# Altium integrated library Microchip dsPIC33F.IntLib: 595 symbols (part 10 of 29)
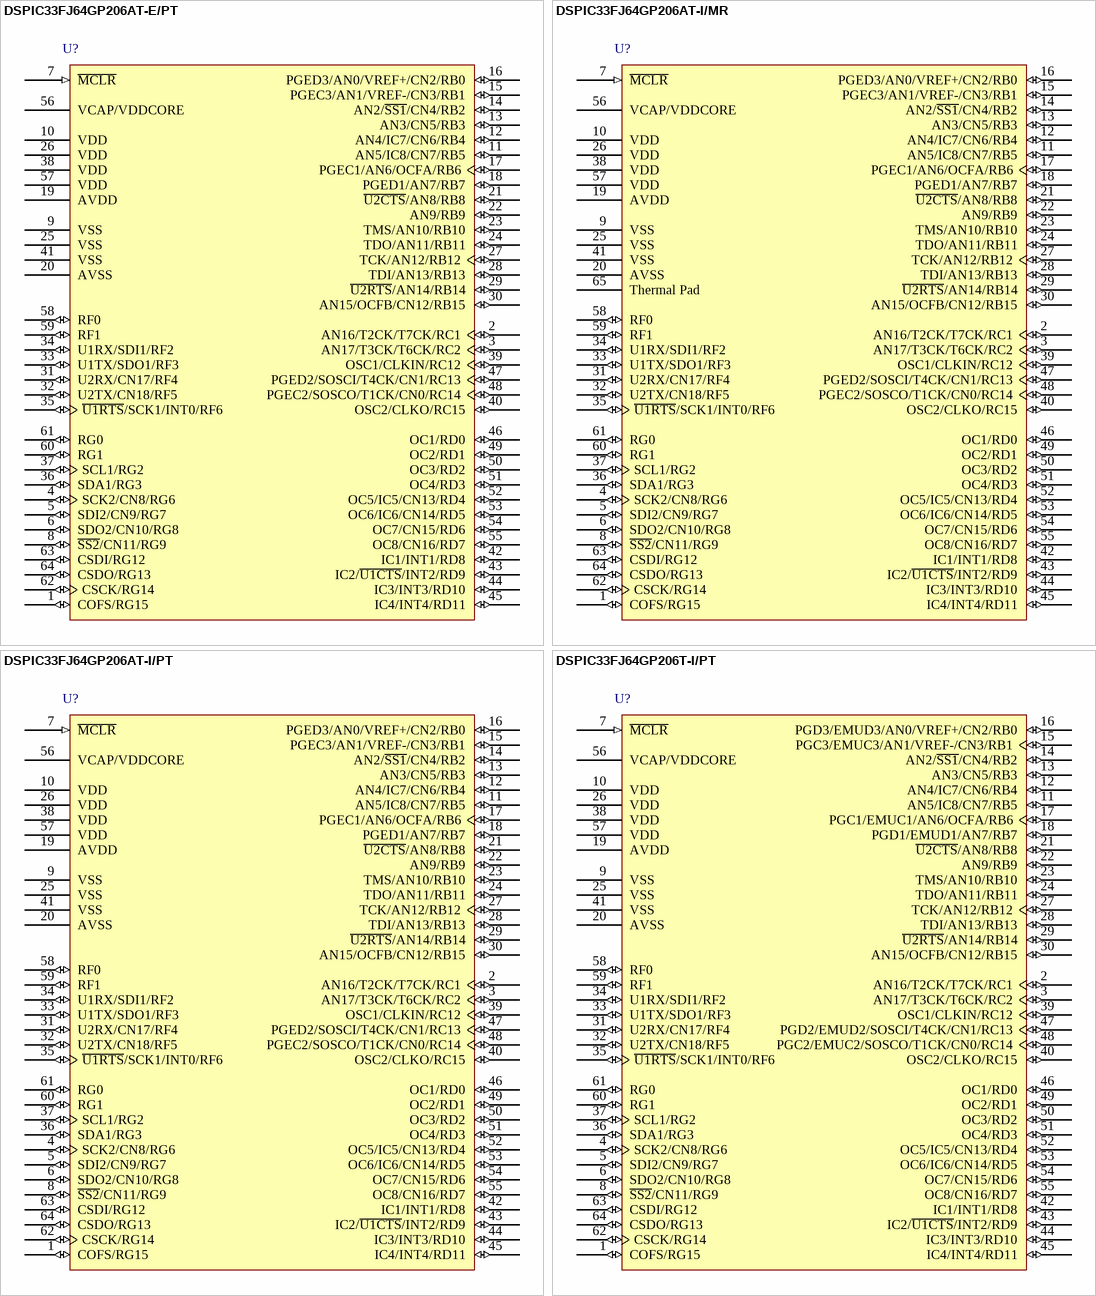
[diagram p127: symbols DSPIC33FJ64GP206AT-E/PT to DSPIC33FJ64GP206T-I/PT]

## DSPIC33FJ64GP206T-I/PT
designator U?
High-Performance 16-bit Digital Signal Controller, 64 KB Flash, 8 KB RAM, 64-Pin TQFP, Industrial Temperature, Tape and Reel; DatasheetVersion: revC, Mar-2009; PackageVersion: revBB, Aug-2009; PackageReference: TQFP-PT64; PackageDescription: 64-Lead Thin Plastic Quad Flat Pack (PT) - 10x10x1mm Body, 2.00mm [TQFP]; Code_JEDEC: MS-026; ComponentLink1Description: Manufacturer URL; ComponentLink1URL: http://www.microchip.com/; ComponentLink2Description: Datasheet; ComponentLink2URL: http://ww1.microchip.com/downloads/en/DeviceDoc/70286C.pdf; ComponentLink3Description: Package Specification; ComponentLink3URL: http://www.microchip.com/stellent/groups/techpub_sg/documents/packagingspec/en012702.pdf
footprint TQFP-PT64_N (Thin QFP, 64-Leads, Body 10x10mm, Pitch 0.5mm, IPC Medium Density)
footprint TQFP-PT64_L (Thin QFP, 64-Leads, Body 10x10mm, Pitch 0.5mm, IPC High Density)
footprint TQFP-PT64_M (Thin QFP, 64-Leads, Body 10x10mm, Pitch 0.5mm, IPC Low Density)
pins: 1 COFS/RG15 (io), 2 AN16/T2CK/T7CK/RC1 (io), 3 AN17/T3CK/T6CK/RC2 (io), 4 SCK2/CN8/RG6 (io), 5 SDI2/CN9/RG7 (io), 6 SDO2/CN10/RG8 (io), 7 ~{MCLR} (in), 8 ~{SS2}/CN11/RG9 (io), 9 VSS (power), 10 VDD (power), 11 AN5/IC8/CN7/RB5 (io), 12 AN4/IC7/CN6/RB4 (io), 13 AN3/CN5/RB3 (io), 14 AN2/~{SS1}/CN4/RB2 (io), 15 PGC3/EMUC3/AN1/VREF-/CN3/RB1 (io), 16 PGD3/EMUD3/AN0/VREF+/CN2/RB0 (io), 17 PGC1/EMUC1/AN6/OCFA/RB6 (io), 18 PGD1/EMUD1/AN7/RB7 (io), 19 AVDD (power), 20 AVSS (power), 21 ~{U2CTS}/AN8/RB8 (io), 22 AN9/RB9 (io), 23 TMS/AN10/RB10 (io), 24 TDO/AN11/RB11 (io), 25 VSS (power), 26 VDD (power), 27 TCK/AN12/RB12 (io), 28 TDI/AN13/RB13 (io), 29 ~{U2RTS}/AN14/RB14 (io), 30 AN15/OCFB/CN12/RB15 (io), 31 U2RX/CN17/RF4 (io), 32 U2TX/CN18/RF5 (io), 33 U1TX/SDO1/RF3 (io), 34 U1RX/SDI1/RF2 (io), 35 ~{U1RTS}/SCK1/INT0/RF6 (io), 36 SDA1/RG3 (io), 37 SCL1/RG2 (io), 38 VDD (power), 39 OSC1/CLKIN/RC12 (io), 40 OSC2/CLKO/RC15 (io), 41 VSS (power), 42 IC1/INT1/RD8 (io), 43 IC2/~{U1CTS}/INT2/RD9 (io), 44 IC3/INT3/RD10 (io), 45 IC4/INT4/RD11 (io), 46 OC1/RD0 (io), 47 PGD2/EMUD2/SOSCI/T4CK/CN1/RC13 (io), 48 PGC2/EMUC2/SOSCO/T1CK/CN0/RC14 (io), 49 OC2/RD1 (io), 50 OC3/RD2 (io), 51 OC4/RD3 (io), 52 OC5/IC5/CN13/RD4 (io), 53 OC6/IC6/CN14/RD5 (io), 54 OC7/CN15/RD6 (io), 55 OC8/CN16/RD7 (io), 56 VCAP/VDDCORE (power), 57 VDD (power), 58 RF0 (io), 59 RF1 (io), 60 RG1 (io), 61 RG0 (io), 62 CSCK/RG14 (io), 63 CSDI/RG12 (io), 64 CSDO/RG13 (io)

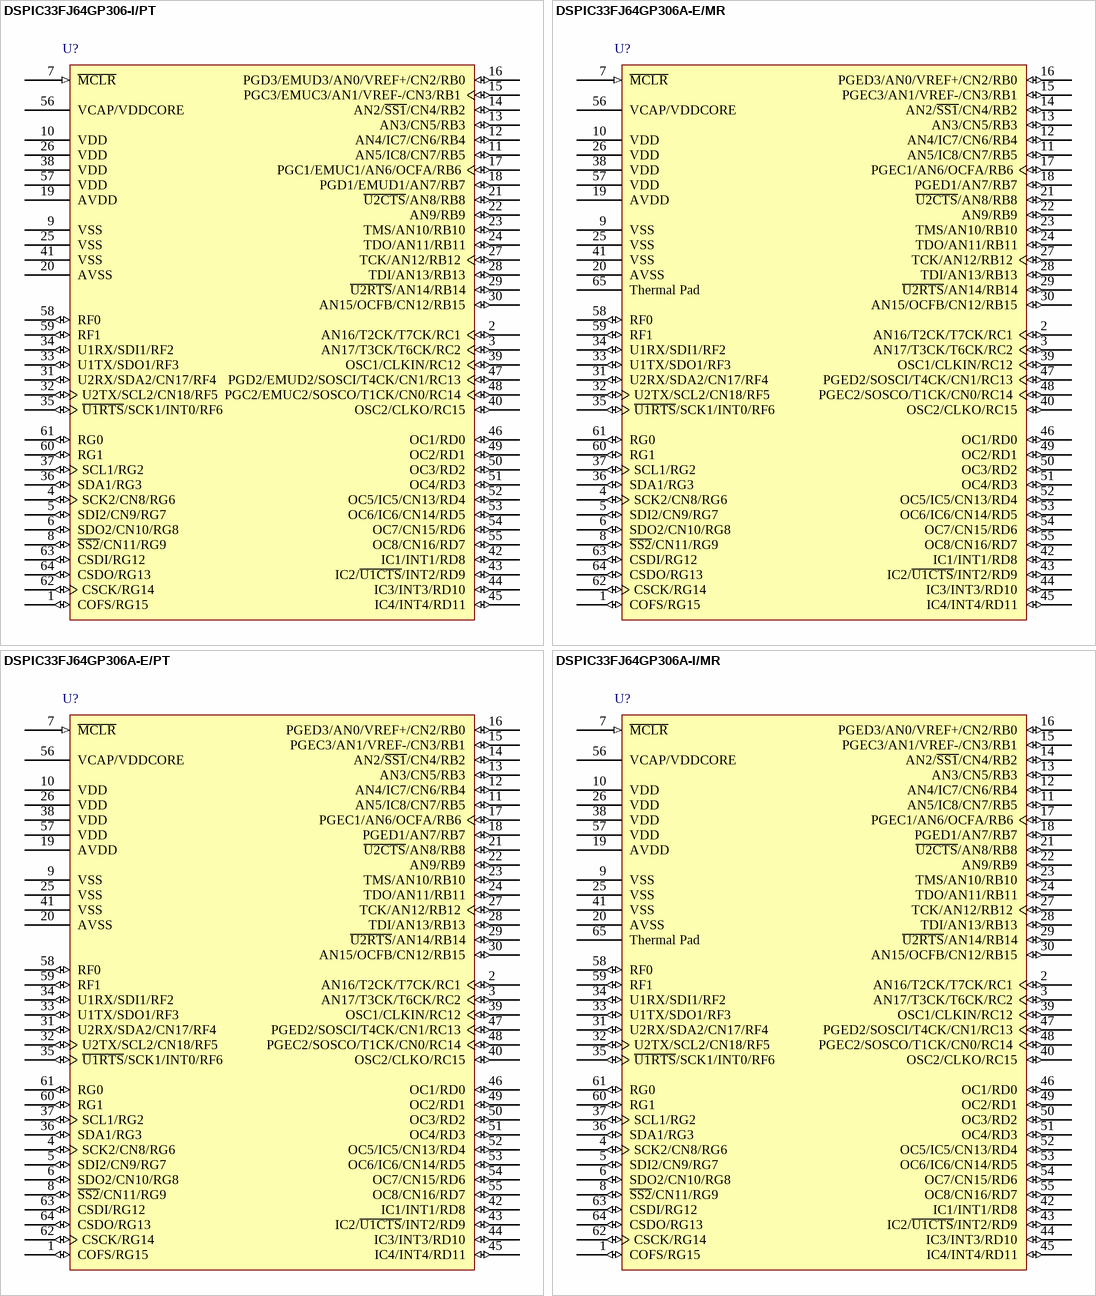
[diagram p30: symbols DSPIC33FJ64GP306-I/PT to DSPIC33FJ64GP306A-I/MR]

## DSPIC33FJ64GP306-I/PT
designator U?
High-Performance 16-bit Digital Signal Controller, 64 KB Flash, 16 KB RAM, 64-Pin TQFP, Industrial Temperature; DatasheetVersion: revC, Mar-2009; PackageVersion: revBB, Aug-2009; PackageReference: TQFP-PT64; PackageDescription: 64-Lead Thin Plastic Quad Flat Pack (PT) - 10x10x1mm Body, 2.00mm [TQFP]; Code_JEDEC: MS-026; ComponentLink1Description: Manufacturer URL; ComponentLink1URL: http://www.microchip.com/; ComponentLink2Description: Datasheet; ComponentLink2URL: http://ww1.microchip.com/downloads/en/DeviceDoc/70286C.pdf; ComponentLink3Description: Package Specification; ComponentLink3URL: http://www.microchip.com/stellent/groups/techpub_sg/documents/packagingspec/en012702.pdf
footprint TQFP-PT64_N (Thin QFP, 64-Leads, Body 10x10mm, Pitch 0.5mm, IPC Medium Density)
footprint TQFP-PT64_L (Thin QFP, 64-Leads, Body 10x10mm, Pitch 0.5mm, IPC High Density)
footprint TQFP-PT64_M (Thin QFP, 64-Leads, Body 10x10mm, Pitch 0.5mm, IPC Low Density)
pins: 1 COFS/RG15 (io), 2 AN16/T2CK/T7CK/RC1 (io), 3 AN17/T3CK/T6CK/RC2 (io), 4 SCK2/CN8/RG6 (io), 5 SDI2/CN9/RG7 (io), 6 SDO2/CN10/RG8 (io), 7 ~{MCLR} (in), 8 ~{SS2}/CN11/RG9 (io), 9 VSS (power), 10 VDD (power), 11 AN5/IC8/CN7/RB5 (io), 12 AN4/IC7/CN6/RB4 (io), 13 AN3/CN5/RB3 (io), 14 AN2/~{SS1}/CN4/RB2 (io), 15 PGC3/EMUC3/AN1/VREF-/CN3/RB1 (io), 16 PGD3/EMUD3/AN0/VREF+/CN2/RB0 (io), 17 PGC1/EMUC1/AN6/OCFA/RB6 (io), 18 PGD1/EMUD1/AN7/RB7 (io), 19 AVDD (power), 20 AVSS (power), 21 ~{U2CTS}/AN8/RB8 (io), 22 AN9/RB9 (io), 23 TMS/AN10/RB10 (io), 24 TDO/AN11/RB11 (io), 25 VSS (power), 26 VDD (power), 27 TCK/AN12/RB12 (io), 28 TDI/AN13/RB13 (io), 29 ~{U2RTS}/AN14/RB14 (io), 30 AN15/OCFB/CN12/RB15 (io), 31 U2RX/SDA2/CN17/RF4 (io), 32 U2TX/SCL2/CN18/RF5 (io), 33 U1TX/SDO1/RF3 (io), 34 U1RX/SDI1/RF2 (io), 35 ~{U1RTS}/SCK1/INT0/RF6 (io), 36 SDA1/RG3 (io), 37 SCL1/RG2 (io), 38 VDD (power), 39 OSC1/CLKIN/RC12 (io), 40 OSC2/CLKO/RC15 (io), 41 VSS (power), 42 IC1/INT1/RD8 (io), 43 IC2/~{U1CTS}/INT2/RD9 (io), 44 IC3/INT3/RD10 (io), 45 IC4/INT4/RD11 (io), 46 OC1/RD0 (io), 47 PGD2/EMUD2/SOSCI/T4CK/CN1/RC13 (io), 48 PGC2/EMUC2/SOSCO/T1CK/CN0/RC14 (io), 49 OC2/RD1 (io), 50 OC3/RD2 (io), 51 OC4/RD3 (io), 52 OC5/IC5/CN13/RD4 (io), 53 OC6/IC6/CN14/RD5 (io), 54 OC7/CN15/RD6 (io), 55 OC8/CN16/RD7 (io), 56 VCAP/VDDCORE (power), 57 VDD (power), 58 RF0 (io), 59 RF1 (io), 60 RG1 (io), 61 RG0 (io), 62 CSCK/RG14 (io), 63 CSDI/RG12 (io), 64 CSDO/RG13 (io)

## DSPIC33FJ64GP306A-E/MR
designator U?
High-Performance 16-bit Digital Signal Controller, 64 KB Flash, 16 KB RAM , 64-Pin QFN, Extended High Temperature; DatasheetVersion: revB, Apr-2009; PackageVersion: revBB, Aug-2009; PackageReference: QFN-MR64; PackageDescription: 64-Lead Plastic Quad Flat, No Lead Package (MR) - 9x9x0.9 mm Body [QFN]; ComponentLink1Description: Manufacturer URL; ComponentLink1URL: http://www.microchip.com/; ComponentLink2Description: Datasheet; ComponentLink2URL: http://ww1.microchip.com/downloads/en/DeviceDoc/70593B.pdf; ComponentLink3Description: Package Specification; ComponentLink3URL: http://www.microchip.com/stellent/groups/techpub_sg/documents/packagingspec/en012702.pdf
footprint QFN-MR64_N (QFN, 64-Leads, Body 9x9mm, Pitch 0.5mm, Thermal Pad 7.5x7.5mm, IPC Medium Density)
footprint QFN-MR64_L (QFN, 64-Leads, Body 9x9mm, Pitch 0.5mm, Thermal Pad 7.5x7.5mm, IPC High Density)
footprint QFN-MR64_M (QFN, 64-Leads, Body 9x9mm, Pitch 0.5mm, Thermal Pad 7.5x7.5mm, IPC Low Density)
pins: 1 COFS/RG15 (io), 2 AN16/T2CK/T7CK/RC1 (io), 3 AN17/T3CK/T6CK/RC2 (io), 4 SCK2/CN8/RG6 (io), 5 SDI2/CN9/RG7 (io), 6 SDO2/CN10/RG8 (io), 7 ~{MCLR} (in), 8 ~{SS2}/CN11/RG9 (io), 9 VSS (power), 10 VDD (power), 11 AN5/IC8/CN7/RB5 (io), 12 AN4/IC7/CN6/RB4 (io), 13 AN3/CN5/RB3 (io), 14 AN2/~{SS1}/CN4/RB2 (io), 15 PGEC3/AN1/VREF-/CN3/RB1 (io), 16 PGED3/AN0/VREF+/CN2/RB0 (io), 17 PGEC1/AN6/OCFA/RB6 (io), 18 PGED1/AN7/RB7 (io), 19 AVDD (power), 20 AVSS (power), 21 ~{U2CTS}/AN8/RB8 (io), 22 AN9/RB9 (io), 23 TMS/AN10/RB10 (io), 24 TDO/AN11/RB11 (io), 25 VSS (power), 26 VDD (power), 27 TCK/AN12/RB12 (io), 28 TDI/AN13/RB13 (io), 29 ~{U2RTS}/AN14/RB14 (io), 30 AN15/OCFB/CN12/RB15 (io), 31 U2RX/SDA2/CN17/RF4 (io), 32 U2TX/SCL2/CN18/RF5 (io), 33 U1TX/SDO1/RF3 (io), 34 U1RX/SDI1/RF2 (io), 35 ~{U1RTS}/SCK1/INT0/RF6 (io), 36 SDA1/RG3 (io), 37 SCL1/RG2 (io), 38 VDD (power), 39 OSC1/CLKIN/RC12 (io), 40 OSC2/CLKO/RC15 (io), 41 VSS (power), 42 IC1/INT1/RD8 (io), 43 IC2/~{U1CTS}/INT2/RD9 (io), 44 IC3/INT3/RD10 (io), 45 IC4/INT4/RD11 (io), 46 OC1/RD0 (io), 47 PGED2/SOSCI/T4CK/CN1/RC13 (io), 48 PGEC2/SOSCO/T1CK/CN0/RC14 (io), 49 OC2/RD1 (io), 50 OC3/RD2 (io), 51 OC4/RD3 (io), 52 OC5/IC5/CN13/RD4 (io), 53 OC6/IC6/CN14/RD5 (io), 54 OC7/CN15/RD6 (io), 55 OC8/CN16/RD7 (io), 56 VCAP/VDDCORE (power), 57 VDD (power), 58 RF0 (io), 59 RF1 (io), 60 RG1 (io), 61 RG0 (io), 62 CSCK/RG14 (io), 63 CSDI/RG12 (io), 64 CSDO/RG13 (io), 65 Thermal Pad

## DSPIC33FJ64GP306A-E/PT
designator U?
High-Performance 16-bit Digital Signal Controller, 64 KB Flash, 16 KB RAM , 64-Pin TQFP, Extended High Temperature; DatasheetVersion: revB, Apr-2009; PackageVersion: revBB, Aug-2009; PackageReference: TQFP-PT64; PackageDescription: 64-Lead Thin Plastic Quad Flat Pack (PT) - 10x10x1mm Body, 2.00mm [TQFP]; Code_JEDEC: MS-026; ComponentLink1Description: Manufacturer URL; ComponentLink1URL: http://www.microchip.com/; ComponentLink2Description: Datasheet; ComponentLink2URL: http://ww1.microchip.com/downloads/en/DeviceDoc/70593B.pdf; ComponentLink3Description: Package Specification; ComponentLink3URL: http://www.microchip.com/stellent/groups/techpub_sg/documents/packagingspec/en012702.pdf
footprint TQFP-PT64_N (Thin QFP, 64-Leads, Body 10x10mm, Pitch 0.5mm, IPC Medium Density)
footprint TQFP-PT64_L (Thin QFP, 64-Leads, Body 10x10mm, Pitch 0.5mm, IPC High Density)
footprint TQFP-PT64_M (Thin QFP, 64-Leads, Body 10x10mm, Pitch 0.5mm, IPC Low Density)
pins: 1 COFS/RG15 (io), 2 AN16/T2CK/T7CK/RC1 (io), 3 AN17/T3CK/T6CK/RC2 (io), 4 SCK2/CN8/RG6 (io), 5 SDI2/CN9/RG7 (io), 6 SDO2/CN10/RG8 (io), 7 ~{MCLR} (in), 8 ~{SS2}/CN11/RG9 (io), 9 VSS (power), 10 VDD (power), 11 AN5/IC8/CN7/RB5 (io), 12 AN4/IC7/CN6/RB4 (io), 13 AN3/CN5/RB3 (io), 14 AN2/~{SS1}/CN4/RB2 (io), 15 PGEC3/AN1/VREF-/CN3/RB1 (io), 16 PGED3/AN0/VREF+/CN2/RB0 (io), 17 PGEC1/AN6/OCFA/RB6 (io), 18 PGED1/AN7/RB7 (io), 19 AVDD (power), 20 AVSS (power), 21 ~{U2CTS}/AN8/RB8 (io), 22 AN9/RB9 (io), 23 TMS/AN10/RB10 (io), 24 TDO/AN11/RB11 (io), 25 VSS (power), 26 VDD (power), 27 TCK/AN12/RB12 (io), 28 TDI/AN13/RB13 (io), 29 ~{U2RTS}/AN14/RB14 (io), 30 AN15/OCFB/CN12/RB15 (io), 31 U2RX/SDA2/CN17/RF4 (io), 32 U2TX/SCL2/CN18/RF5 (io), 33 U1TX/SDO1/RF3 (io), 34 U1RX/SDI1/RF2 (io), 35 ~{U1RTS}/SCK1/INT0/RF6 (io), 36 SDA1/RG3 (io), 37 SCL1/RG2 (io), 38 VDD (power), 39 OSC1/CLKIN/RC12 (io), 40 OSC2/CLKO/RC15 (io), 41 VSS (power), 42 IC1/INT1/RD8 (io), 43 IC2/~{U1CTS}/INT2/RD9 (io), 44 IC3/INT3/RD10 (io), 45 IC4/INT4/RD11 (io), 46 OC1/RD0 (io), 47 PGED2/SOSCI/T4CK/CN1/RC13 (io), 48 PGEC2/SOSCO/T1CK/CN0/RC14 (io), 49 OC2/RD1 (io), 50 OC3/RD2 (io), 51 OC4/RD3 (io), 52 OC5/IC5/CN13/RD4 (io), 53 OC6/IC6/CN14/RD5 (io), 54 OC7/CN15/RD6 (io), 55 OC8/CN16/RD7 (io), 56 VCAP/VDDCORE (power), 57 VDD (power), 58 RF0 (io), 59 RF1 (io), 60 RG1 (io), 61 RG0 (io), 62 CSCK/RG14 (io), 63 CSDI/RG12 (io), 64 CSDO/RG13 (io)

## DSPIC33FJ64GP306A-I/MR
designator U?
High-Performance 16-bit Digital Signal Controller, 64 KB Flash, 16 KB RAM , 64-Pin QFN, Industrial Temperature; DatasheetVersion: revB, Apr-2009; PackageVersion: revBB, Aug-2009; PackageReference: QFN-MR64; PackageDescription: 64-Lead Plastic Quad Flat, No Lead Package (MR) - 9x9x0.9 mm Body [QFN]; ComponentLink1Description: Manufacturer URL; ComponentLink1URL: http://www.microchip.com/; ComponentLink2Description: Datasheet; ComponentLink2URL: http://ww1.microchip.com/downloads/en/DeviceDoc/70593B.pdf; ComponentLink3Description: Package Specification; ComponentLink3URL: http://www.microchip.com/stellent/groups/techpub_sg/documents/packagingspec/en012702.pdf
footprint QFN-MR64_N (QFN, 64-Leads, Body 9x9mm, Pitch 0.5mm, Thermal Pad 7.5x7.5mm, IPC Medium Density)
footprint QFN-MR64_L (QFN, 64-Leads, Body 9x9mm, Pitch 0.5mm, Thermal Pad 7.5x7.5mm, IPC High Density)
footprint QFN-MR64_M (QFN, 64-Leads, Body 9x9mm, Pitch 0.5mm, Thermal Pad 7.5x7.5mm, IPC Low Density)
pins: 1 COFS/RG15 (io), 2 AN16/T2CK/T7CK/RC1 (io), 3 AN17/T3CK/T6CK/RC2 (io), 4 SCK2/CN8/RG6 (io), 5 SDI2/CN9/RG7 (io), 6 SDO2/CN10/RG8 (io), 7 ~{MCLR} (in), 8 ~{SS2}/CN11/RG9 (io), 9 VSS (power), 10 VDD (power), 11 AN5/IC8/CN7/RB5 (io), 12 AN4/IC7/CN6/RB4 (io), 13 AN3/CN5/RB3 (io), 14 AN2/~{SS1}/CN4/RB2 (io), 15 PGEC3/AN1/VREF-/CN3/RB1 (io), 16 PGED3/AN0/VREF+/CN2/RB0 (io), 17 PGEC1/AN6/OCFA/RB6 (io), 18 PGED1/AN7/RB7 (io), 19 AVDD (power), 20 AVSS (power), 21 ~{U2CTS}/AN8/RB8 (io), 22 AN9/RB9 (io), 23 TMS/AN10/RB10 (io), 24 TDO/AN11/RB11 (io), 25 VSS (power), 26 VDD (power), 27 TCK/AN12/RB12 (io), 28 TDI/AN13/RB13 (io), 29 ~{U2RTS}/AN14/RB14 (io), 30 AN15/OCFB/CN12/RB15 (io), 31 U2RX/SDA2/CN17/RF4 (io), 32 U2TX/SCL2/CN18/RF5 (io), 33 U1TX/SDO1/RF3 (io), 34 U1RX/SDI1/RF2 (io), 35 ~{U1RTS}/SCK1/INT0/RF6 (io), 36 SDA1/RG3 (io), 37 SCL1/RG2 (io), 38 VDD (power), 39 OSC1/CLKIN/RC12 (io), 40 OSC2/CLKO/RC15 (io), 41 VSS (power), 42 IC1/INT1/RD8 (io), 43 IC2/~{U1CTS}/INT2/RD9 (io), 44 IC3/INT3/RD10 (io), 45 IC4/INT4/RD11 (io), 46 OC1/RD0 (io), 47 PGED2/SOSCI/T4CK/CN1/RC13 (io), 48 PGEC2/SOSCO/T1CK/CN0/RC14 (io), 49 OC2/RD1 (io), 50 OC3/RD2 (io), 51 OC4/RD3 (io), 52 OC5/IC5/CN13/RD4 (io), 53 OC6/IC6/CN14/RD5 (io), 54 OC7/CN15/RD6 (io), 55 OC8/CN16/RD7 (io), 56 VCAP/VDDCORE (power), 57 VDD (power), 58 RF0 (io), 59 RF1 (io), 60 RG1 (io), 61 RG0 (io), 62 CSCK/RG14 (io), 63 CSDI/RG12 (io), 64 CSDO/RG13 (io), 65 Thermal Pad

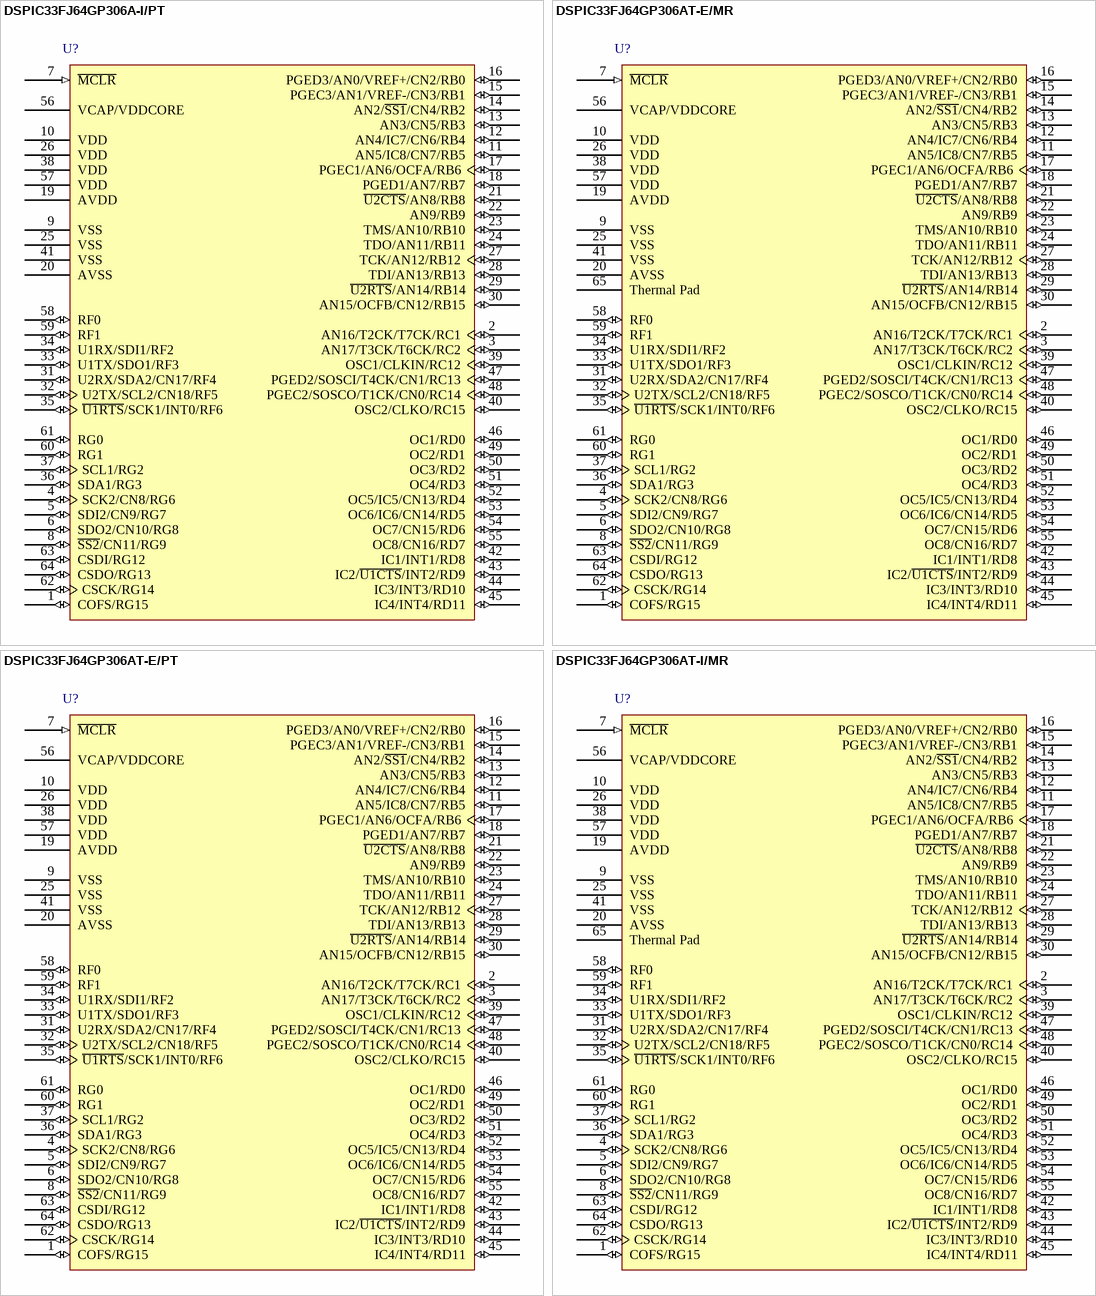
[diagram p31: symbols DSPIC33FJ64GP306A-I/PT to DSPIC33FJ64GP306AT-I/MR]

## DSPIC33FJ64GP306A-I/PT
designator U?
High-Performance 16-bit Digital Signal Controller, 64 KB Flash, 16 KB RAM , 64-Pin TQFP, Industrial Temperature; DatasheetVersion: revB, Apr-2009; PackageVersion: revBB, Aug-2009; PackageReference: TQFP-PT64; PackageDescription: 64-Lead Thin Plastic Quad Flat Pack (PT) - 10x10x1mm Body, 2.00mm [TQFP]; Code_JEDEC: MS-026; ComponentLink1Description: Manufacturer URL; ComponentLink1URL: http://www.microchip.com/; ComponentLink2Description: Datasheet; ComponentLink2URL: http://ww1.microchip.com/downloads/en/DeviceDoc/70593B.pdf; ComponentLink3Description: Package Specification; ComponentLink3URL: http://www.microchip.com/stellent/groups/techpub_sg/documents/packagingspec/en012702.pdf
footprint TQFP-PT64_N (Thin QFP, 64-Leads, Body 10x10mm, Pitch 0.5mm, IPC Medium Density)
footprint TQFP-PT64_L (Thin QFP, 64-Leads, Body 10x10mm, Pitch 0.5mm, IPC High Density)
footprint TQFP-PT64_M (Thin QFP, 64-Leads, Body 10x10mm, Pitch 0.5mm, IPC Low Density)
pins: 1 COFS/RG15 (io), 2 AN16/T2CK/T7CK/RC1 (io), 3 AN17/T3CK/T6CK/RC2 (io), 4 SCK2/CN8/RG6 (io), 5 SDI2/CN9/RG7 (io), 6 SDO2/CN10/RG8 (io), 7 ~{MCLR} (in), 8 ~{SS2}/CN11/RG9 (io), 9 VSS (power), 10 VDD (power), 11 AN5/IC8/CN7/RB5 (io), 12 AN4/IC7/CN6/RB4 (io), 13 AN3/CN5/RB3 (io), 14 AN2/~{SS1}/CN4/RB2 (io), 15 PGEC3/AN1/VREF-/CN3/RB1 (io), 16 PGED3/AN0/VREF+/CN2/RB0 (io), 17 PGEC1/AN6/OCFA/RB6 (io), 18 PGED1/AN7/RB7 (io), 19 AVDD (power), 20 AVSS (power), 21 ~{U2CTS}/AN8/RB8 (io), 22 AN9/RB9 (io), 23 TMS/AN10/RB10 (io), 24 TDO/AN11/RB11 (io), 25 VSS (power), 26 VDD (power), 27 TCK/AN12/RB12 (io), 28 TDI/AN13/RB13 (io), 29 ~{U2RTS}/AN14/RB14 (io), 30 AN15/OCFB/CN12/RB15 (io), 31 U2RX/SDA2/CN17/RF4 (io), 32 U2TX/SCL2/CN18/RF5 (io), 33 U1TX/SDO1/RF3 (io), 34 U1RX/SDI1/RF2 (io), 35 ~{U1RTS}/SCK1/INT0/RF6 (io), 36 SDA1/RG3 (io), 37 SCL1/RG2 (io), 38 VDD (power), 39 OSC1/CLKIN/RC12 (io), 40 OSC2/CLKO/RC15 (io), 41 VSS (power), 42 IC1/INT1/RD8 (io), 43 IC2/~{U1CTS}/INT2/RD9 (io), 44 IC3/INT3/RD10 (io), 45 IC4/INT4/RD11 (io), 46 OC1/RD0 (io), 47 PGED2/SOSCI/T4CK/CN1/RC13 (io), 48 PGEC2/SOSCO/T1CK/CN0/RC14 (io), 49 OC2/RD1 (io), 50 OC3/RD2 (io), 51 OC4/RD3 (io), 52 OC5/IC5/CN13/RD4 (io), 53 OC6/IC6/CN14/RD5 (io), 54 OC7/CN15/RD6 (io), 55 OC8/CN16/RD7 (io), 56 VCAP/VDDCORE (power), 57 VDD (power), 58 RF0 (io), 59 RF1 (io), 60 RG1 (io), 61 RG0 (io), 62 CSCK/RG14 (io), 63 CSDI/RG12 (io), 64 CSDO/RG13 (io)

## DSPIC33FJ64GP306AT-E/MR
designator U?
High-Performance 16-bit Digital Signal Controller, 64 KB Flash, 16 KB RAM , 64-Pin QFN, Extended High Temperature , Tape and Reel; DatasheetVersion: revB, Apr-2009; PackageVersion: revBB, Aug-2009; PackageReference: QFN-MR64; PackageDescription: 64-Lead Plastic Quad Flat, No Lead Package (MR) - 9x9x0.9 mm Body [QFN]; ComponentLink1Description: Manufacturer URL; ComponentLink1URL: http://www.microchip.com/; ComponentLink2Description: Datasheet; ComponentLink2URL: http://ww1.microchip.com/downloads/en/DeviceDoc/70593B.pdf; ComponentLink3Description: Package Specification; ComponentLink3URL: http://www.microchip.com/stellent/groups/techpub_sg/documents/packagingspec/en012702.pdf
footprint QFN-MR64_N (QFN, 64-Leads, Body 9x9mm, Pitch 0.5mm, Thermal Pad 7.5x7.5mm, IPC Medium Density)
footprint QFN-MR64_L (QFN, 64-Leads, Body 9x9mm, Pitch 0.5mm, Thermal Pad 7.5x7.5mm, IPC High Density)
footprint QFN-MR64_M (QFN, 64-Leads, Body 9x9mm, Pitch 0.5mm, Thermal Pad 7.5x7.5mm, IPC Low Density)
pins: 1 COFS/RG15 (io), 2 AN16/T2CK/T7CK/RC1 (io), 3 AN17/T3CK/T6CK/RC2 (io), 4 SCK2/CN8/RG6 (io), 5 SDI2/CN9/RG7 (io), 6 SDO2/CN10/RG8 (io), 7 ~{MCLR} (in), 8 ~{SS2}/CN11/RG9 (io), 9 VSS (power), 10 VDD (power), 11 AN5/IC8/CN7/RB5 (io), 12 AN4/IC7/CN6/RB4 (io), 13 AN3/CN5/RB3 (io), 14 AN2/~{SS1}/CN4/RB2 (io), 15 PGEC3/AN1/VREF-/CN3/RB1 (io), 16 PGED3/AN0/VREF+/CN2/RB0 (io), 17 PGEC1/AN6/OCFA/RB6 (io), 18 PGED1/AN7/RB7 (io), 19 AVDD (power), 20 AVSS (power), 21 ~{U2CTS}/AN8/RB8 (io), 22 AN9/RB9 (io), 23 TMS/AN10/RB10 (io), 24 TDO/AN11/RB11 (io), 25 VSS (power), 26 VDD (power), 27 TCK/AN12/RB12 (io), 28 TDI/AN13/RB13 (io), 29 ~{U2RTS}/AN14/RB14 (io), 30 AN15/OCFB/CN12/RB15 (io), 31 U2RX/SDA2/CN17/RF4 (io), 32 U2TX/SCL2/CN18/RF5 (io), 33 U1TX/SDO1/RF3 (io), 34 U1RX/SDI1/RF2 (io), 35 ~{U1RTS}/SCK1/INT0/RF6 (io), 36 SDA1/RG3 (io), 37 SCL1/RG2 (io), 38 VDD (power), 39 OSC1/CLKIN/RC12 (io), 40 OSC2/CLKO/RC15 (io), 41 VSS (power), 42 IC1/INT1/RD8 (io), 43 IC2/~{U1CTS}/INT2/RD9 (io), 44 IC3/INT3/RD10 (io), 45 IC4/INT4/RD11 (io), 46 OC1/RD0 (io), 47 PGED2/SOSCI/T4CK/CN1/RC13 (io), 48 PGEC2/SOSCO/T1CK/CN0/RC14 (io), 49 OC2/RD1 (io), 50 OC3/RD2 (io), 51 OC4/RD3 (io), 52 OC5/IC5/CN13/RD4 (io), 53 OC6/IC6/CN14/RD5 (io), 54 OC7/CN15/RD6 (io), 55 OC8/CN16/RD7 (io), 56 VCAP/VDDCORE (power), 57 VDD (power), 58 RF0 (io), 59 RF1 (io), 60 RG1 (io), 61 RG0 (io), 62 CSCK/RG14 (io), 63 CSDI/RG12 (io), 64 CSDO/RG13 (io), 65 Thermal Pad

## DSPIC33FJ64GP306AT-E/PT
designator U?
High-Performance 16-bit Digital Signal Controller, 64 KB Flash, 16 KB RAM , 64-Pin TQFP, Extended High Temperature , Tape and Reel; DatasheetVersion: revB, Apr-2009; PackageVersion: revBB, Aug-2009; PackageReference: TQFP-PT64; PackageDescription: 64-Lead Thin Plastic Quad Flat Pack (PT) - 10x10x1mm Body, 2.00mm [TQFP]; Code_JEDEC: MS-026; ComponentLink1Description: Manufacturer URL; ComponentLink1URL: http://www.microchip.com/; ComponentLink2Description: Datasheet; ComponentLink2URL: http://ww1.microchip.com/downloads/en/DeviceDoc/70593B.pdf; ComponentLink3Description: Package Specification; ComponentLink3URL: http://www.microchip.com/stellent/groups/techpub_sg/documents/packagingspec/en012702.pdf
footprint TQFP-PT64_N (Thin QFP, 64-Leads, Body 10x10mm, Pitch 0.5mm, IPC Medium Density)
footprint TQFP-PT64_L (Thin QFP, 64-Leads, Body 10x10mm, Pitch 0.5mm, IPC High Density)
footprint TQFP-PT64_M (Thin QFP, 64-Leads, Body 10x10mm, Pitch 0.5mm, IPC Low Density)
pins: 1 COFS/RG15 (io), 2 AN16/T2CK/T7CK/RC1 (io), 3 AN17/T3CK/T6CK/RC2 (io), 4 SCK2/CN8/RG6 (io), 5 SDI2/CN9/RG7 (io), 6 SDO2/CN10/RG8 (io), 7 ~{MCLR} (in), 8 ~{SS2}/CN11/RG9 (io), 9 VSS (power), 10 VDD (power), 11 AN5/IC8/CN7/RB5 (io), 12 AN4/IC7/CN6/RB4 (io), 13 AN3/CN5/RB3 (io), 14 AN2/~{SS1}/CN4/RB2 (io), 15 PGEC3/AN1/VREF-/CN3/RB1 (io), 16 PGED3/AN0/VREF+/CN2/RB0 (io), 17 PGEC1/AN6/OCFA/RB6 (io), 18 PGED1/AN7/RB7 (io), 19 AVDD (power), 20 AVSS (power), 21 ~{U2CTS}/AN8/RB8 (io), 22 AN9/RB9 (io), 23 TMS/AN10/RB10 (io), 24 TDO/AN11/RB11 (io), 25 VSS (power), 26 VDD (power), 27 TCK/AN12/RB12 (io), 28 TDI/AN13/RB13 (io), 29 ~{U2RTS}/AN14/RB14 (io), 30 AN15/OCFB/CN12/RB15 (io), 31 U2RX/SDA2/CN17/RF4 (io), 32 U2TX/SCL2/CN18/RF5 (io), 33 U1TX/SDO1/RF3 (io), 34 U1RX/SDI1/RF2 (io), 35 ~{U1RTS}/SCK1/INT0/RF6 (io), 36 SDA1/RG3 (io), 37 SCL1/RG2 (io), 38 VDD (power), 39 OSC1/CLKIN/RC12 (io), 40 OSC2/CLKO/RC15 (io), 41 VSS (power), 42 IC1/INT1/RD8 (io), 43 IC2/~{U1CTS}/INT2/RD9 (io), 44 IC3/INT3/RD10 (io), 45 IC4/INT4/RD11 (io), 46 OC1/RD0 (io), 47 PGED2/SOSCI/T4CK/CN1/RC13 (io), 48 PGEC2/SOSCO/T1CK/CN0/RC14 (io), 49 OC2/RD1 (io), 50 OC3/RD2 (io), 51 OC4/RD3 (io), 52 OC5/IC5/CN13/RD4 (io), 53 OC6/IC6/CN14/RD5 (io), 54 OC7/CN15/RD6 (io), 55 OC8/CN16/RD7 (io), 56 VCAP/VDDCORE (power), 57 VDD (power), 58 RF0 (io), 59 RF1 (io), 60 RG1 (io), 61 RG0 (io), 62 CSCK/RG14 (io), 63 CSDI/RG12 (io), 64 CSDO/RG13 (io)

## DSPIC33FJ64GP306AT-I/MR
designator U?
High-Performance 16-bit Digital Signal Controller, 64 KB Flash, 16 KB RAM , 64-Pin QFN, Industrial Temperature , Tape and Reel; DatasheetVersion: revB, Apr-2009; PackageVersion: revBB, Aug-2009; PackageReference: QFN-MR64; PackageDescription: 64-Lead Plastic Quad Flat, No Lead Package (MR) - 9x9x0.9 mm Body [QFN]; ComponentLink1Description: Manufacturer URL; ComponentLink1URL: http://www.microchip.com/; ComponentLink2Description: Datasheet; ComponentLink2URL: http://ww1.microchip.com/downloads/en/DeviceDoc/70593B.pdf; ComponentLink3Description: Package Specification; ComponentLink3URL: http://www.microchip.com/stellent/groups/techpub_sg/documents/packagingspec/en012702.pdf
footprint QFN-MR64_N (QFN, 64-Leads, Body 9x9mm, Pitch 0.5mm, Thermal Pad 7.5x7.5mm, IPC Medium Density)
footprint QFN-MR64_L (QFN, 64-Leads, Body 9x9mm, Pitch 0.5mm, Thermal Pad 7.5x7.5mm, IPC High Density)
footprint QFN-MR64_M (QFN, 64-Leads, Body 9x9mm, Pitch 0.5mm, Thermal Pad 7.5x7.5mm, IPC Low Density)
pins: 1 COFS/RG15 (io), 2 AN16/T2CK/T7CK/RC1 (io), 3 AN17/T3CK/T6CK/RC2 (io), 4 SCK2/CN8/RG6 (io), 5 SDI2/CN9/RG7 (io), 6 SDO2/CN10/RG8 (io), 7 ~{MCLR} (in), 8 ~{SS2}/CN11/RG9 (io), 9 VSS (power), 10 VDD (power), 11 AN5/IC8/CN7/RB5 (io), 12 AN4/IC7/CN6/RB4 (io), 13 AN3/CN5/RB3 (io), 14 AN2/~{SS1}/CN4/RB2 (io), 15 PGEC3/AN1/VREF-/CN3/RB1 (io), 16 PGED3/AN0/VREF+/CN2/RB0 (io), 17 PGEC1/AN6/OCFA/RB6 (io), 18 PGED1/AN7/RB7 (io), 19 AVDD (power), 20 AVSS (power), 21 ~{U2CTS}/AN8/RB8 (io), 22 AN9/RB9 (io), 23 TMS/AN10/RB10 (io), 24 TDO/AN11/RB11 (io), 25 VSS (power), 26 VDD (power), 27 TCK/AN12/RB12 (io), 28 TDI/AN13/RB13 (io), 29 ~{U2RTS}/AN14/RB14 (io), 30 AN15/OCFB/CN12/RB15 (io), 31 U2RX/SDA2/CN17/RF4 (io), 32 U2TX/SCL2/CN18/RF5 (io), 33 U1TX/SDO1/RF3 (io), 34 U1RX/SDI1/RF2 (io), 35 ~{U1RTS}/SCK1/INT0/RF6 (io), 36 SDA1/RG3 (io), 37 SCL1/RG2 (io), 38 VDD (power), 39 OSC1/CLKIN/RC12 (io), 40 OSC2/CLKO/RC15 (io), 41 VSS (power), 42 IC1/INT1/RD8 (io), 43 IC2/~{U1CTS}/INT2/RD9 (io), 44 IC3/INT3/RD10 (io), 45 IC4/INT4/RD11 (io), 46 OC1/RD0 (io), 47 PGED2/SOSCI/T4CK/CN1/RC13 (io), 48 PGEC2/SOSCO/T1CK/CN0/RC14 (io), 49 OC2/RD1 (io), 50 OC3/RD2 (io), 51 OC4/RD3 (io), 52 OC5/IC5/CN13/RD4 (io), 53 OC6/IC6/CN14/RD5 (io), 54 OC7/CN15/RD6 (io), 55 OC8/CN16/RD7 (io), 56 VCAP/VDDCORE (power), 57 VDD (power), 58 RF0 (io), 59 RF1 (io), 60 RG1 (io), 61 RG0 (io), 62 CSCK/RG14 (io), 63 CSDI/RG12 (io), 64 CSDO/RG13 (io), 65 Thermal Pad

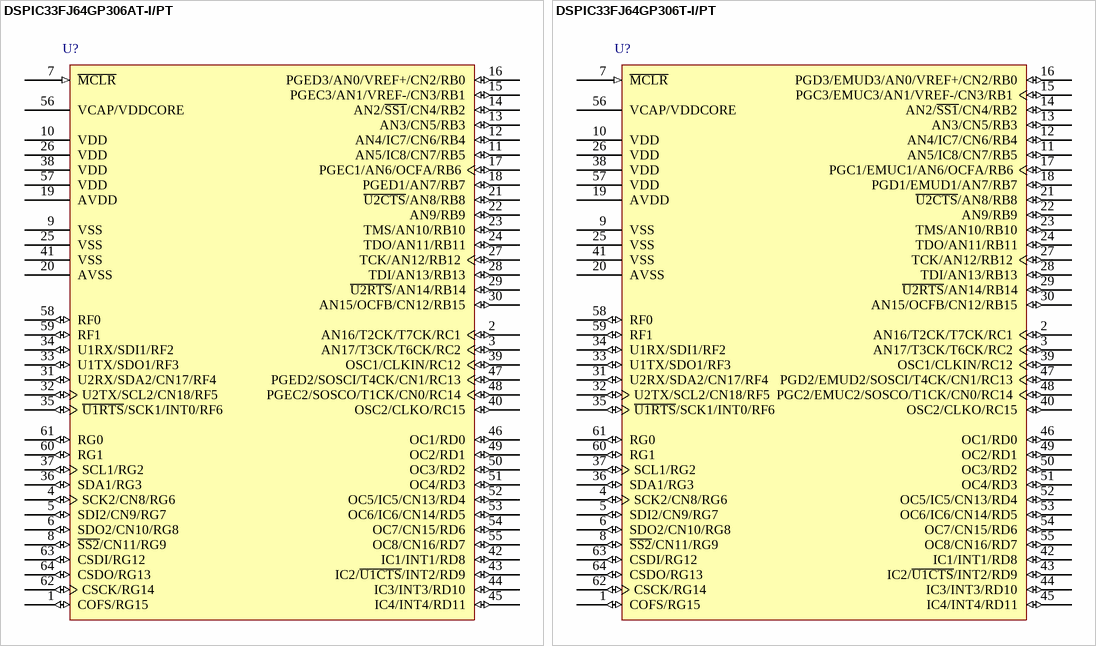
[diagram p32: symbols DSPIC33FJ64GP306AT-I/PT to DSPIC33FJ64GP306T-I/PT]

## DSPIC33FJ64GP306AT-I/PT
designator U?
High-Performance 16-bit Digital Signal Controller, 64 KB Flash, 16 KB RAM , 64-Pin TQFP, Industrial Temperature , Tape and Reel; DatasheetVersion: revB, Apr-2009; PackageVersion: revBB, Aug-2009; PackageReference: TQFP-PT64; PackageDescription: 64-Lead Thin Plastic Quad Flat Pack (PT) - 10x10x1mm Body, 2.00mm [TQFP]; Code_JEDEC: MS-026; ComponentLink1Description: Manufacturer URL; ComponentLink1URL: http://www.microchip.com/; ComponentLink2Description: Datasheet; ComponentLink2URL: http://ww1.microchip.com/downloads/en/DeviceDoc/70593B.pdf; ComponentLink3Description: Package Specification; ComponentLink3URL: http://www.microchip.com/stellent/groups/techpub_sg/documents/packagingspec/en012702.pdf
footprint TQFP-PT64_N (Thin QFP, 64-Leads, Body 10x10mm, Pitch 0.5mm, IPC Medium Density)
footprint TQFP-PT64_L (Thin QFP, 64-Leads, Body 10x10mm, Pitch 0.5mm, IPC High Density)
footprint TQFP-PT64_M (Thin QFP, 64-Leads, Body 10x10mm, Pitch 0.5mm, IPC Low Density)
pins: 1 COFS/RG15 (io), 2 AN16/T2CK/T7CK/RC1 (io), 3 AN17/T3CK/T6CK/RC2 (io), 4 SCK2/CN8/RG6 (io), 5 SDI2/CN9/RG7 (io), 6 SDO2/CN10/RG8 (io), 7 ~{MCLR} (in), 8 ~{SS2}/CN11/RG9 (io), 9 VSS (power), 10 VDD (power), 11 AN5/IC8/CN7/RB5 (io), 12 AN4/IC7/CN6/RB4 (io), 13 AN3/CN5/RB3 (io), 14 AN2/~{SS1}/CN4/RB2 (io), 15 PGEC3/AN1/VREF-/CN3/RB1 (io), 16 PGED3/AN0/VREF+/CN2/RB0 (io), 17 PGEC1/AN6/OCFA/RB6 (io), 18 PGED1/AN7/RB7 (io), 19 AVDD (power), 20 AVSS (power), 21 ~{U2CTS}/AN8/RB8 (io), 22 AN9/RB9 (io), 23 TMS/AN10/RB10 (io), 24 TDO/AN11/RB11 (io), 25 VSS (power), 26 VDD (power), 27 TCK/AN12/RB12 (io), 28 TDI/AN13/RB13 (io), 29 ~{U2RTS}/AN14/RB14 (io), 30 AN15/OCFB/CN12/RB15 (io), 31 U2RX/SDA2/CN17/RF4 (io), 32 U2TX/SCL2/CN18/RF5 (io), 33 U1TX/SDO1/RF3 (io), 34 U1RX/SDI1/RF2 (io), 35 ~{U1RTS}/SCK1/INT0/RF6 (io), 36 SDA1/RG3 (io), 37 SCL1/RG2 (io), 38 VDD (power), 39 OSC1/CLKIN/RC12 (io), 40 OSC2/CLKO/RC15 (io), 41 VSS (power), 42 IC1/INT1/RD8 (io), 43 IC2/~{U1CTS}/INT2/RD9 (io), 44 IC3/INT3/RD10 (io), 45 IC4/INT4/RD11 (io), 46 OC1/RD0 (io), 47 PGED2/SOSCI/T4CK/CN1/RC13 (io), 48 PGEC2/SOSCO/T1CK/CN0/RC14 (io), 49 OC2/RD1 (io), 50 OC3/RD2 (io), 51 OC4/RD3 (io), 52 OC5/IC5/CN13/RD4 (io), 53 OC6/IC6/CN14/RD5 (io), 54 OC7/CN15/RD6 (io), 55 OC8/CN16/RD7 (io), 56 VCAP/VDDCORE (power), 57 VDD (power), 58 RF0 (io), 59 RF1 (io), 60 RG1 (io), 61 RG0 (io), 62 CSCK/RG14 (io), 63 CSDI/RG12 (io), 64 CSDO/RG13 (io)

## DSPIC33FJ64GP306T-I/PT
designator U?
High-Performance 16-bit Digital Signal Controller, 64 KB Flash, 16 KB RAM, 64-Pin TQFP, Industrial Temperature, Tape and Reel; DatasheetVersion: revC, Mar-2009; PackageVersion: revBB, Aug-2009; PackageReference: TQFP-PT64; PackageDescription: 64-Lead Thin Plastic Quad Flat Pack (PT) - 10x10x1mm Body, 2.00mm [TQFP]; Code_JEDEC: MS-026; ComponentLink1Description: Manufacturer URL; ComponentLink1URL: http://www.microchip.com/; ComponentLink2Description: Datasheet; ComponentLink2URL: http://ww1.microchip.com/downloads/en/DeviceDoc/70286C.pdf; ComponentLink3Description: Package Specification; ComponentLink3URL: http://www.microchip.com/stellent/groups/techpub_sg/documents/packagingspec/en012702.pdf
footprint TQFP-PT64_N (Thin QFP, 64-Leads, Body 10x10mm, Pitch 0.5mm, IPC Medium Density)
footprint TQFP-PT64_L (Thin QFP, 64-Leads, Body 10x10mm, Pitch 0.5mm, IPC High Density)
footprint TQFP-PT64_M (Thin QFP, 64-Leads, Body 10x10mm, Pitch 0.5mm, IPC Low Density)
pins: 1 COFS/RG15 (io), 2 AN16/T2CK/T7CK/RC1 (io), 3 AN17/T3CK/T6CK/RC2 (io), 4 SCK2/CN8/RG6 (io), 5 SDI2/CN9/RG7 (io), 6 SDO2/CN10/RG8 (io), 7 ~{MCLR} (in), 8 ~{SS2}/CN11/RG9 (io), 9 VSS (power), 10 VDD (power), 11 AN5/IC8/CN7/RB5 (io), 12 AN4/IC7/CN6/RB4 (io), 13 AN3/CN5/RB3 (io), 14 AN2/~{SS1}/CN4/RB2 (io), 15 PGC3/EMUC3/AN1/VREF-/CN3/RB1 (io), 16 PGD3/EMUD3/AN0/VREF+/CN2/RB0 (io), 17 PGC1/EMUC1/AN6/OCFA/RB6 (io), 18 PGD1/EMUD1/AN7/RB7 (io), 19 AVDD (power), 20 AVSS (power), 21 ~{U2CTS}/AN8/RB8 (io), 22 AN9/RB9 (io), 23 TMS/AN10/RB10 (io), 24 TDO/AN11/RB11 (io), 25 VSS (power), 26 VDD (power), 27 TCK/AN12/RB12 (io), 28 TDI/AN13/RB13 (io), 29 ~{U2RTS}/AN14/RB14 (io), 30 AN15/OCFB/CN12/RB15 (io), 31 U2RX/SDA2/CN17/RF4 (io), 32 U2TX/SCL2/CN18/RF5 (io), 33 U1TX/SDO1/RF3 (io), 34 U1RX/SDI1/RF2 (io), 35 ~{U1RTS}/SCK1/INT0/RF6 (io), 36 SDA1/RG3 (io), 37 SCL1/RG2 (io), 38 VDD (power), 39 OSC1/CLKIN/RC12 (io), 40 OSC2/CLKO/RC15 (io), 41 VSS (power), 42 IC1/INT1/RD8 (io), 43 IC2/~{U1CTS}/INT2/RD9 (io), 44 IC3/INT3/RD10 (io), 45 IC4/INT4/RD11 (io), 46 OC1/RD0 (io), 47 PGD2/EMUD2/SOSCI/T4CK/CN1/RC13 (io), 48 PGC2/EMUC2/SOSCO/T1CK/CN0/RC14 (io), 49 OC2/RD1 (io), 50 OC3/RD2 (io), 51 OC4/RD3 (io), 52 OC5/IC5/CN13/RD4 (io), 53 OC6/IC6/CN14/RD5 (io), 54 OC7/CN15/RD6 (io), 55 OC8/CN16/RD7 (io), 56 VCAP/VDDCORE (power), 57 VDD (power), 58 RF0 (io), 59 RF1 (io), 60 RG1 (io), 61 RG0 (io), 62 CSCK/RG14 (io), 63 CSDI/RG12 (io), 64 CSDO/RG13 (io)

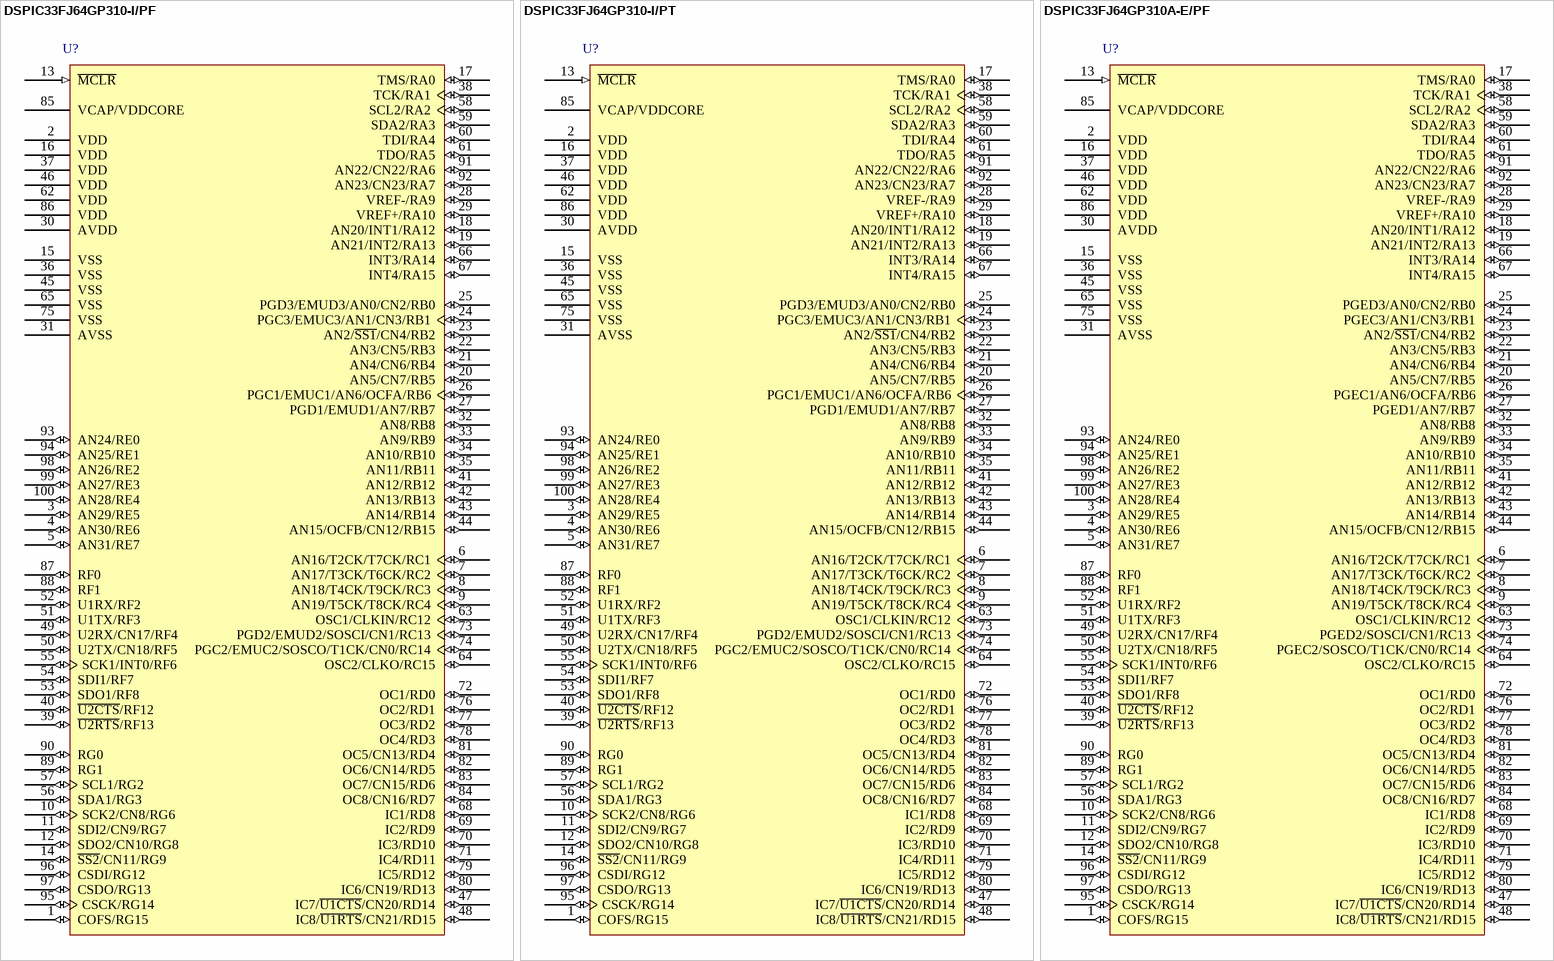
[diagram p33: symbols DSPIC33FJ64GP310-I/PF to DSPIC33FJ64GP310A-E/PF]

## DSPIC33FJ64GP310-I/PF
designator U?
High-Performance 16-bit Digital Signal Controller, 64 KB Flash, 16 KB RAM, 100-Pin TQFP, Industrial Temperature; DatasheetVersion: revC, Mar-2009; PackageVersion: revBB, Aug-2009; PackageReference: TQFP-PF100; PackageDescription: 100-Lead Thin Plastic Quad Flat Pack (PF) - 14x14x1mm Body, 2.00mm [TQFP]; ComponentLink1Description: Manufacturer URL; ComponentLink1URL: http://www.microchip.com/; ComponentLink2Description: Datasheet; ComponentLink2URL: http://ww1.microchip.com/downloads/en/DeviceDoc/70286C.pdf; ComponentLink3Description: Package Specification; ComponentLink3URL: http://www.microchip.com/stellent/groups/techpub_sg/documents/packagingspec/en012702.pdf
footprint TQFP-PF100_N (Thin QFP, 100-Leads, Body 14x14mm, Pitch 0.5mm, IPC Medium Density)
footprint TQFP-PF100_L (Thin QFP, 100-Leads, Body 14x14mm, Pitch 0.5mm, IPC High Density)
footprint TQFP-PF100_M (Thin QFP, 100-Leads, Body 14x14mm, Pitch 0.5mm, IPC Low Density)
pins: 1 COFS/RG15 (io), 2 VDD (power), 3 AN29/RE5 (io), 4 AN30/RE6 (io), 5 AN31/RE7 (io), 6 AN16/T2CK/T7CK/RC1 (io), 7 AN17/T3CK/T6CK/RC2 (io), 8 AN18/T4CK/T9CK/RC3 (io), 9 AN19/T5CK/T8CK/RC4 (io), 10 SCK2/CN8/RG6 (io), 11 SDI2/CN9/RG7 (io), 12 SDO2/CN10/RG8 (io), 13 ~{MCLR} (in), 14 ~{SS2}/CN11/RG9 (io), 15 VSS (power), 16 VDD (power), 17 TMS/RA0 (io), 18 AN20/INT1/RA12 (io), 19 AN21/INT2/RA13 (io), 20 AN5/CN7/RB5 (io), 21 AN4/CN6/RB4 (io), 22 AN3/CN5/RB3 (io), 23 AN2/~{SS1}/CN4/RB2 (io), 24 PGC3/EMUC3/AN1/CN3/RB1 (io), 25 PGD3/EMUD3/AN0/CN2/RB0 (io), 26 PGC1/EMUC1/AN6/OCFA/RB6 (io), 27 PGD1/EMUD1/AN7/RB7 (io), 28 VREF-/RA9 (io), 29 VREF+/RA10 (io), 30 AVDD (power), 31 AVSS (power), 32 AN8/RB8 (io), 33 AN9/RB9 (io), 34 AN10/RB10 (io), 35 AN11/RB11 (io), 36 VSS (power), 37 VDD (power), 38 TCK/RA1 (io), 39 ~{U2RTS}/RF13 (io), 40 ~{U2CTS}/RF12 (io), 41 AN12/RB12 (io), 42 AN13/RB13 (io), 43 AN14/RB14 (io), 44 AN15/OCFB/CN12/RB15 (io), 45 VSS (power), 46 VDD (power), 47 IC7/~{U1CTS}/CN20/RD14 (io), 48 IC8/~{U1RTS}/CN21/RD15 (io), 49 U2RX/CN17/RF4 (io), 50 U2TX/CN18/RF5 (io), 51 U1TX/RF3 (io), 52 U1RX/RF2 (io), 53 SDO1/RF8 (io), 54 SDI1/RF7 (io), 55 SCK1/INT0/RF6 (io), 56 SDA1/RG3 (io), 57 SCL1/RG2 (io), 58 SCL2/RA2 (io), 59 SDA2/RA3 (io), 60 TDI/RA4 (io), 61 TDO/RA5 (io), 62 VDD (power), 63 OSC1/CLKIN/RC12 (io), 64 OSC2/CLKO/RC15 (io), 65 VSS (power), 66 INT3/RA14 (io), 67 INT4/RA15 (io), 68 IC1/RD8 (io), 69 IC2/RD9 (io), 70 IC3/RD10 (io), 71 IC4/RD11 (io), 72 OC1/RD0 (io), 73 PGD2/EMUD2/SOSCI/CN1/RC13 (io), 74 PGC2/EMUC2/SOSCO/T1CK/CN0/RC14 (io), 75 VSS (power), 76 OC2/RD1 (io), 77 OC3/RD2 (io), 78 OC4/RD3 (io), 79 IC5/RD12 (io), 80 IC6/CN19/RD13 (io), 81 OC5/CN13/RD4 (io), 82 OC6/CN14/RD5 (io), 83 OC7/CN15/RD6 (io), 84 OC8/CN16/RD7 (io), 85 VCAP/VDDCORE (power), 86 VDD (power), 87 RF0 (io), 88 RF1 (io), 89 RG1 (io), 90 RG0 (io), 91 AN22/CN22/RA6 (io), 92 AN23/CN23/RA7 (io), 93 AN24/RE0 (io), 94 AN25/RE1 (io), 95 CSCK/RG14 (io), 96 CSDI/RG12 (io), 97 CSDO/RG13 (io), 98 AN26/RE2 (io), 99 AN27/RE3 (io), 100 AN28/RE4 (io)

## DSPIC33FJ64GP310-I/PT
designator U?
High-Performance 16-bit Digital Signal Controller, 64 KB Flash, 16 KB RAM, 100-Pin TQFP, Industrial Temperature; DatasheetVersion: revC, Mar-2009; PackageVersion: revBB, Aug-2009; PackageReference: TQFP-PT100; PackageDescription: 100-Lead Plastic Thin Quad Flatpack (PT) - 12x12x1mm Body, 2.00mm [TQFP]; ComponentLink1Description: Manufacturer URL; ComponentLink1URL: http://www.microchip.com/; ComponentLink2Description: Datasheet; ComponentLink2URL: http://ww1.microchip.com/downloads/en/DeviceDoc/70286C.pdf; ComponentLink3Description: Package Specification; ComponentLink3URL: http://www.microchip.com/stellent/groups/techpub_sg/documents/packagingspec/en012702.pdf
footprint TQFP-PT100_N (Thin QFP, 100-Leads, Body 12x12mm, Pitch 0.4mm, IPC Medium Density)
footprint TQFP-PT100_L (Thin QFP, 100-Leads, Body 12x12mm, Pitch 0.4mm, IPC High Density)
footprint TQFP-PT100_M (Thin QFP, 100-Leads, Body 12x12mm, Pitch 0.4mm, IPC Low Density)
pins: 1 COFS/RG15 (io), 2 VDD (power), 3 AN29/RE5 (io), 4 AN30/RE6 (io), 5 AN31/RE7 (io), 6 AN16/T2CK/T7CK/RC1 (io), 7 AN17/T3CK/T6CK/RC2 (io), 8 AN18/T4CK/T9CK/RC3 (io), 9 AN19/T5CK/T8CK/RC4 (io), 10 SCK2/CN8/RG6 (io), 11 SDI2/CN9/RG7 (io), 12 SDO2/CN10/RG8 (io), 13 ~{MCLR} (in), 14 ~{SS2}/CN11/RG9 (io), 15 VSS (power), 16 VDD (power), 17 TMS/RA0 (io), 18 AN20/INT1/RA12 (io), 19 AN21/INT2/RA13 (io), 20 AN5/CN7/RB5 (io), 21 AN4/CN6/RB4 (io), 22 AN3/CN5/RB3 (io), 23 AN2/~{SS1}/CN4/RB2 (io), 24 PGC3/EMUC3/AN1/CN3/RB1 (io), 25 PGD3/EMUD3/AN0/CN2/RB0 (io), 26 PGC1/EMUC1/AN6/OCFA/RB6 (io), 27 PGD1/EMUD1/AN7/RB7 (io), 28 VREF-/RA9 (io), 29 VREF+/RA10 (io), 30 AVDD (power), 31 AVSS (power), 32 AN8/RB8 (io), 33 AN9/RB9 (io), 34 AN10/RB10 (io), 35 AN11/RB11 (io), 36 VSS (power), 37 VDD (power), 38 TCK/RA1 (io), 39 ~{U2RTS}/RF13 (io), 40 ~{U2CTS}/RF12 (io), 41 AN12/RB12 (io), 42 AN13/RB13 (io), 43 AN14/RB14 (io), 44 AN15/OCFB/CN12/RB15 (io), 45 VSS (power), 46 VDD (power), 47 IC7/~{U1CTS}/CN20/RD14 (io), 48 IC8/~{U1RTS}/CN21/RD15 (io), 49 U2RX/CN17/RF4 (io), 50 U2TX/CN18/RF5 (io), 51 U1TX/RF3 (io), 52 U1RX/RF2 (io), 53 SDO1/RF8 (io), 54 SDI1/RF7 (io), 55 SCK1/INT0/RF6 (io), 56 SDA1/RG3 (io), 57 SCL1/RG2 (io), 58 SCL2/RA2 (io), 59 SDA2/RA3 (io), 60 TDI/RA4 (io), 61 TDO/RA5 (io), 62 VDD (power), 63 OSC1/CLKIN/RC12 (io), 64 OSC2/CLKO/RC15 (io), 65 VSS (power), 66 INT3/RA14 (io), 67 INT4/RA15 (io), 68 IC1/RD8 (io), 69 IC2/RD9 (io), 70 IC3/RD10 (io), 71 IC4/RD11 (io), 72 OC1/RD0 (io), 73 PGD2/EMUD2/SOSCI/CN1/RC13 (io), 74 PGC2/EMUC2/SOSCO/T1CK/CN0/RC14 (io), 75 VSS (power), 76 OC2/RD1 (io), 77 OC3/RD2 (io), 78 OC4/RD3 (io), 79 IC5/RD12 (io), 80 IC6/CN19/RD13 (io), 81 OC5/CN13/RD4 (io), 82 OC6/CN14/RD5 (io), 83 OC7/CN15/RD6 (io), 84 OC8/CN16/RD7 (io), 85 VCAP/VDDCORE (power), 86 VDD (power), 87 RF0 (io), 88 RF1 (io), 89 RG1 (io), 90 RG0 (io), 91 AN22/CN22/RA6 (io), 92 AN23/CN23/RA7 (io), 93 AN24/RE0 (io), 94 AN25/RE1 (io), 95 CSCK/RG14 (io), 96 CSDI/RG12 (io), 97 CSDO/RG13 (io), 98 AN26/RE2 (io), 99 AN27/RE3 (io), 100 AN28/RE4 (io)

## DSPIC33FJ64GP310A-E/PF
designator U?
High-Performance 16-bit Digital Signal Controller, 64 KB Flash, 16 KB RAM , 100-PinTQFP, Extended High Temperature; DatasheetVersion: revB, Apr-2009; PackageVersion: revBB, Aug-2009; PackageReference: TQFP-PF100; PackageDescription: 100-Lead Thin Plastic Quad Flat Pack (PF) - 14x14x1mm Body, 2.00mm [TQFP]; ComponentLink1Description: Manufacturer URL; ComponentLink1URL: http://www.microchip.com/; ComponentLink2Description: Datasheet; ComponentLink2URL: http://ww1.microchip.com/downloads/en/DeviceDoc/70593B.pdf; ComponentLink3Description: Package Specification; ComponentLink3URL: http://www.microchip.com/stellent/groups/techpub_sg/documents/packagingspec/en012702.pdf
footprint TQFP-PF100_N (Thin QFP, 100-Leads, Body 14x14mm, Pitch 0.5mm, IPC Medium Density)
footprint TQFP-PF100_L (Thin QFP, 100-Leads, Body 14x14mm, Pitch 0.5mm, IPC High Density)
footprint TQFP-PF100_M (Thin QFP, 100-Leads, Body 14x14mm, Pitch 0.5mm, IPC Low Density)
pins: 1 COFS/RG15 (io), 2 VDD (power), 3 AN29/RE5 (io), 4 AN30/RE6 (io), 5 AN31/RE7 (io), 6 AN16/T2CK/T7CK/RC1 (io), 7 AN17/T3CK/T6CK/RC2 (io), 8 AN18/T4CK/T9CK/RC3 (io), 9 AN19/T5CK/T8CK/RC4 (io), 10 SCK2/CN8/RG6 (io), 11 SDI2/CN9/RG7 (io), 12 SDO2/CN10/RG8 (io), 13 ~{MCLR} (in), 14 ~{SS2}/CN11/RG9 (io), 15 VSS (power), 16 VDD (power), 17 TMS/RA0 (io), 18 AN20/INT1/RA12 (io), 19 AN21/INT2/RA13 (io), 20 AN5/CN7/RB5 (io), 21 AN4/CN6/RB4 (io), 22 AN3/CN5/RB3 (io), 23 AN2/~{SS1}/CN4/RB2 (io), 24 PGEC3/AN1/CN3/RB1 (io), 25 PGED3/AN0/CN2/RB0 (io), 26 PGEC1/AN6/OCFA/RB6 (io), 27 PGED1/AN7/RB7 (io), 28 VREF-/RA9 (io), 29 VREF+/RA10 (io), 30 AVDD (power), 31 AVSS (power), 32 AN8/RB8 (io), 33 AN9/RB9 (io), 34 AN10/RB10 (io), 35 AN11/RB11 (io), 36 VSS (power), 37 VDD (power), 38 TCK/RA1 (io), 39 ~{U2RTS}/RF13 (io), 40 ~{U2CTS}/RF12 (io), 41 AN12/RB12 (io), 42 AN13/RB13 (io), 43 AN14/RB14 (io), 44 AN15/OCFB/CN12/RB15 (io), 45 VSS (power), 46 VDD (power), 47 IC7/~{U1CTS}/CN20/RD14 (io), 48 IC8/~{U1RTS}/CN21/RD15 (io), 49 U2RX/CN17/RF4 (io), 50 U2TX/CN18/RF5 (io), 51 U1TX/RF3 (io), 52 U1RX/RF2 (io), 53 SDO1/RF8 (io), 54 SDI1/RF7 (io), 55 SCK1/INT0/RF6 (io), 56 SDA1/RG3 (io), 57 SCL1/RG2 (io), 58 SCL2/RA2 (io), 59 SDA2/RA3 (io), 60 TDI/RA4 (io), 61 TDO/RA5 (io), 62 VDD (power), 63 OSC1/CLKIN/RC12 (io), 64 OSC2/CLKO/RC15 (io), 65 VSS (power), 66 INT3/RA14 (io), 67 INT4/RA15 (io), 68 IC1/RD8 (io), 69 IC2/RD9 (io), 70 IC3/RD10 (io), 71 IC4/RD11 (io), 72 OC1/RD0 (io), 73 PGED2/SOSCI/CN1/RC13 (io), 74 PGEC2/SOSCO/T1CK/CN0/RC14 (io), 75 VSS (power), 76 OC2/RD1 (io), 77 OC3/RD2 (io), 78 OC4/RD3 (io), 79 IC5/RD12 (io), 80 IC6/CN19/RD13 (io), 81 OC5/CN13/RD4 (io), 82 OC6/CN14/RD5 (io), 83 OC7/CN15/RD6 (io), 84 OC8/CN16/RD7 (io), 85 VCAP/VDDCORE (power), 86 VDD (power), 87 RF0 (io), 88 RF1 (io), 89 RG1 (io), 90 RG0 (io), 91 AN22/CN22/RA6 (io), 92 AN23/CN23/RA7 (io), 93 AN24/RE0 (io), 94 AN25/RE1 (io), 95 CSCK/RG14 (io), 96 CSDI/RG12 (io), 97 CSDO/RG13 (io), 98 AN26/RE2 (io), 99 AN27/RE3 (io), 100 AN28/RE4 (io)

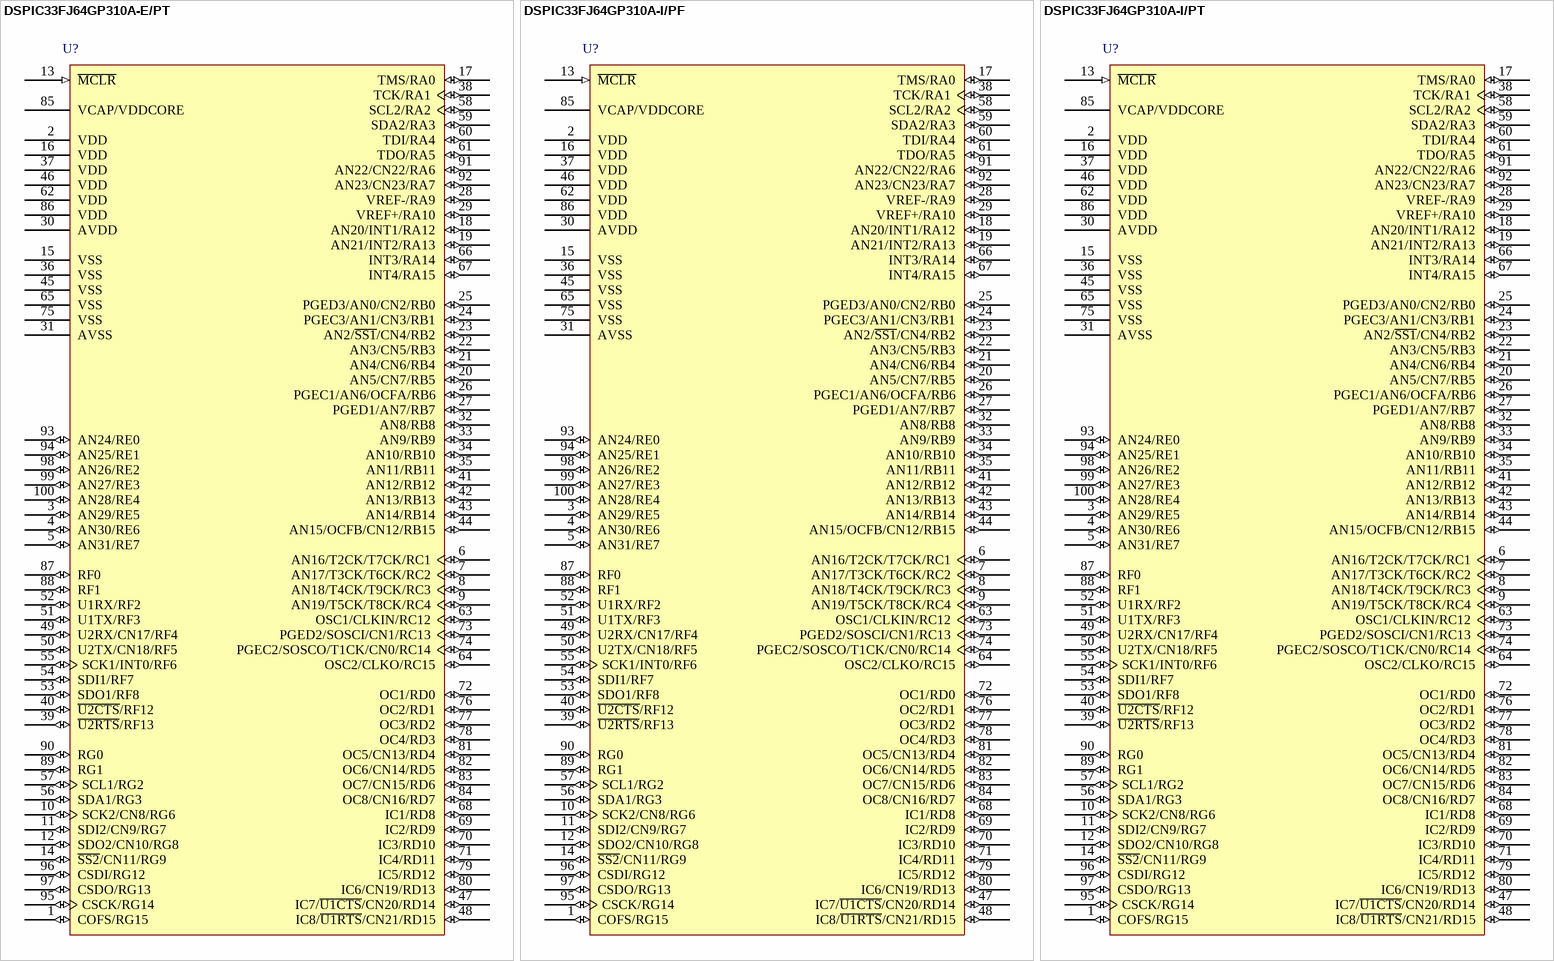
[diagram p34: symbols DSPIC33FJ64GP310A-E/PT to DSPIC33FJ64GP310A-I/PT]

## DSPIC33FJ64GP310A-E/PT
designator U?
High-Performance 16-bit Digital Signal Controller, 64 KB Flash, 16 KB RAM , 100-Pin TQFP, Extended High Temperature; DatasheetVersion: revB, Apr-2009; PackageVersion: revBB, Aug-2009; PackageReference: TQFP-PT100; PackageDescription: 100-Lead Plastic Thin Quad Flatpack (PT) - 12x12x1mm Body, 2.00mm [TQFP]; ComponentLink1Description: Manufacturer URL; ComponentLink1URL: http://www.microchip.com/; ComponentLink2Description: Datasheet; ComponentLink2URL: http://ww1.microchip.com/downloads/en/DeviceDoc/70593B.pdf; ComponentLink3Description: Package Specification; ComponentLink3URL: http://www.microchip.com/stellent/groups/techpub_sg/documents/packagingspec/en012702.pdf
footprint TQFP-PT100_N (Thin QFP, 100-Leads, Body 12x12mm, Pitch 0.4mm, IPC Medium Density)
footprint TQFP-PT100_L (Thin QFP, 100-Leads, Body 12x12mm, Pitch 0.4mm, IPC High Density)
footprint TQFP-PT100_M (Thin QFP, 100-Leads, Body 12x12mm, Pitch 0.4mm, IPC Low Density)
pins: 1 COFS/RG15 (io), 2 VDD (power), 3 AN29/RE5 (io), 4 AN30/RE6 (io), 5 AN31/RE7 (io), 6 AN16/T2CK/T7CK/RC1 (io), 7 AN17/T3CK/T6CK/RC2 (io), 8 AN18/T4CK/T9CK/RC3 (io), 9 AN19/T5CK/T8CK/RC4 (io), 10 SCK2/CN8/RG6 (io), 11 SDI2/CN9/RG7 (io), 12 SDO2/CN10/RG8 (io), 13 ~{MCLR} (in), 14 ~{SS2}/CN11/RG9 (io), 15 VSS (power), 16 VDD (power), 17 TMS/RA0 (io), 18 AN20/INT1/RA12 (io), 19 AN21/INT2/RA13 (io), 20 AN5/CN7/RB5 (io), 21 AN4/CN6/RB4 (io), 22 AN3/CN5/RB3 (io), 23 AN2/~{SS1}/CN4/RB2 (io), 24 PGEC3/AN1/CN3/RB1 (io), 25 PGED3/AN0/CN2/RB0 (io), 26 PGEC1/AN6/OCFA/RB6 (io), 27 PGED1/AN7/RB7 (io), 28 VREF-/RA9 (io), 29 VREF+/RA10 (io), 30 AVDD (power), 31 AVSS (power), 32 AN8/RB8 (io), 33 AN9/RB9 (io), 34 AN10/RB10 (io), 35 AN11/RB11 (io), 36 VSS (power), 37 VDD (power), 38 TCK/RA1 (io), 39 ~{U2RTS}/RF13 (io), 40 ~{U2CTS}/RF12 (io), 41 AN12/RB12 (io), 42 AN13/RB13 (io), 43 AN14/RB14 (io), 44 AN15/OCFB/CN12/RB15 (io), 45 VSS (power), 46 VDD (power), 47 IC7/~{U1CTS}/CN20/RD14 (io), 48 IC8/~{U1RTS}/CN21/RD15 (io), 49 U2RX/CN17/RF4 (io), 50 U2TX/CN18/RF5 (io), 51 U1TX/RF3 (io), 52 U1RX/RF2 (io), 53 SDO1/RF8 (io), 54 SDI1/RF7 (io), 55 SCK1/INT0/RF6 (io), 56 SDA1/RG3 (io), 57 SCL1/RG2 (io), 58 SCL2/RA2 (io), 59 SDA2/RA3 (io), 60 TDI/RA4 (io), 61 TDO/RA5 (io), 62 VDD (power), 63 OSC1/CLKIN/RC12 (io), 64 OSC2/CLKO/RC15 (io), 65 VSS (power), 66 INT3/RA14 (io), 67 INT4/RA15 (io), 68 IC1/RD8 (io), 69 IC2/RD9 (io), 70 IC3/RD10 (io), 71 IC4/RD11 (io), 72 OC1/RD0 (io), 73 PGED2/SOSCI/CN1/RC13 (io), 74 PGEC2/SOSCO/T1CK/CN0/RC14 (io), 75 VSS (power), 76 OC2/RD1 (io), 77 OC3/RD2 (io), 78 OC4/RD3 (io), 79 IC5/RD12 (io), 80 IC6/CN19/RD13 (io), 81 OC5/CN13/RD4 (io), 82 OC6/CN14/RD5 (io), 83 OC7/CN15/RD6 (io), 84 OC8/CN16/RD7 (io), 85 VCAP/VDDCORE (power), 86 VDD (power), 87 RF0 (io), 88 RF1 (io), 89 RG1 (io), 90 RG0 (io), 91 AN22/CN22/RA6 (io), 92 AN23/CN23/RA7 (io), 93 AN24/RE0 (io), 94 AN25/RE1 (io), 95 CSCK/RG14 (io), 96 CSDI/RG12 (io), 97 CSDO/RG13 (io), 98 AN26/RE2 (io), 99 AN27/RE3 (io), 100 AN28/RE4 (io)

## DSPIC33FJ64GP310A-I/PF
designator U?
High-Performance 16-bit Digital Signal Controller, 64 KB Flash, 16 KB RAM , 100-PinTQFP, Industrial Temperature; DatasheetVersion: revB, Apr-2009; PackageVersion: revBB, Aug-2009; PackageReference: TQFP-PF100; PackageDescription: 100-Lead Thin Plastic Quad Flat Pack (PF) - 14x14x1mm Body, 2.00mm [TQFP]; ComponentLink1Description: Manufacturer URL; ComponentLink1URL: http://www.microchip.com/; ComponentLink2Description: Datasheet; ComponentLink2URL: http://ww1.microchip.com/downloads/en/DeviceDoc/70593B.pdf; ComponentLink3Description: Package Specification; ComponentLink3URL: http://www.microchip.com/stellent/groups/techpub_sg/documents/packagingspec/en012702.pdf
footprint TQFP-PF100_N (Thin QFP, 100-Leads, Body 14x14mm, Pitch 0.5mm, IPC Medium Density)
footprint TQFP-PF100_L (Thin QFP, 100-Leads, Body 14x14mm, Pitch 0.5mm, IPC High Density)
footprint TQFP-PF100_M (Thin QFP, 100-Leads, Body 14x14mm, Pitch 0.5mm, IPC Low Density)
pins: 1 COFS/RG15 (io), 2 VDD (power), 3 AN29/RE5 (io), 4 AN30/RE6 (io), 5 AN31/RE7 (io), 6 AN16/T2CK/T7CK/RC1 (io), 7 AN17/T3CK/T6CK/RC2 (io), 8 AN18/T4CK/T9CK/RC3 (io), 9 AN19/T5CK/T8CK/RC4 (io), 10 SCK2/CN8/RG6 (io), 11 SDI2/CN9/RG7 (io), 12 SDO2/CN10/RG8 (io), 13 ~{MCLR} (in), 14 ~{SS2}/CN11/RG9 (io), 15 VSS (power), 16 VDD (power), 17 TMS/RA0 (io), 18 AN20/INT1/RA12 (io), 19 AN21/INT2/RA13 (io), 20 AN5/CN7/RB5 (io), 21 AN4/CN6/RB4 (io), 22 AN3/CN5/RB3 (io), 23 AN2/~{SS1}/CN4/RB2 (io), 24 PGEC3/AN1/CN3/RB1 (io), 25 PGED3/AN0/CN2/RB0 (io), 26 PGEC1/AN6/OCFA/RB6 (io), 27 PGED1/AN7/RB7 (io), 28 VREF-/RA9 (io), 29 VREF+/RA10 (io), 30 AVDD (power), 31 AVSS (power), 32 AN8/RB8 (io), 33 AN9/RB9 (io), 34 AN10/RB10 (io), 35 AN11/RB11 (io), 36 VSS (power), 37 VDD (power), 38 TCK/RA1 (io), 39 ~{U2RTS}/RF13 (io), 40 ~{U2CTS}/RF12 (io), 41 AN12/RB12 (io), 42 AN13/RB13 (io), 43 AN14/RB14 (io), 44 AN15/OCFB/CN12/RB15 (io), 45 VSS (power), 46 VDD (power), 47 IC7/~{U1CTS}/CN20/RD14 (io), 48 IC8/~{U1RTS}/CN21/RD15 (io), 49 U2RX/CN17/RF4 (io), 50 U2TX/CN18/RF5 (io), 51 U1TX/RF3 (io), 52 U1RX/RF2 (io), 53 SDO1/RF8 (io), 54 SDI1/RF7 (io), 55 SCK1/INT0/RF6 (io), 56 SDA1/RG3 (io), 57 SCL1/RG2 (io), 58 SCL2/RA2 (io), 59 SDA2/RA3 (io), 60 TDI/RA4 (io), 61 TDO/RA5 (io), 62 VDD (power), 63 OSC1/CLKIN/RC12 (io), 64 OSC2/CLKO/RC15 (io), 65 VSS (power), 66 INT3/RA14 (io), 67 INT4/RA15 (io), 68 IC1/RD8 (io), 69 IC2/RD9 (io), 70 IC3/RD10 (io), 71 IC4/RD11 (io), 72 OC1/RD0 (io), 73 PGED2/SOSCI/CN1/RC13 (io), 74 PGEC2/SOSCO/T1CK/CN0/RC14 (io), 75 VSS (power), 76 OC2/RD1 (io), 77 OC3/RD2 (io), 78 OC4/RD3 (io), 79 IC5/RD12 (io), 80 IC6/CN19/RD13 (io), 81 OC5/CN13/RD4 (io), 82 OC6/CN14/RD5 (io), 83 OC7/CN15/RD6 (io), 84 OC8/CN16/RD7 (io), 85 VCAP/VDDCORE (power), 86 VDD (power), 87 RF0 (io), 88 RF1 (io), 89 RG1 (io), 90 RG0 (io), 91 AN22/CN22/RA6 (io), 92 AN23/CN23/RA7 (io), 93 AN24/RE0 (io), 94 AN25/RE1 (io), 95 CSCK/RG14 (io), 96 CSDI/RG12 (io), 97 CSDO/RG13 (io), 98 AN26/RE2 (io), 99 AN27/RE3 (io), 100 AN28/RE4 (io)

## DSPIC33FJ64GP310A-I/PT
designator U?
High-Performance 16-bit Digital Signal Controller, 64 KB Flash, 16 KB RAM , 100-Pin TQFP, Industrial Temperature; DatasheetVersion: revB, Apr-2009; PackageVersion: revBB, Aug-2009; PackageReference: TQFP-PT100; PackageDescription: 100-Lead Plastic Thin Quad Flatpack (PT) - 12x12x1mm Body, 2.00mm [TQFP]; ComponentLink1Description: Manufacturer URL; ComponentLink1URL: http://www.microchip.com/; ComponentLink2Description: Datasheet; ComponentLink2URL: http://ww1.microchip.com/downloads/en/DeviceDoc/70593B.pdf; ComponentLink3Description: Package Specification; ComponentLink3URL: http://www.microchip.com/stellent/groups/techpub_sg/documents/packagingspec/en012702.pdf
footprint TQFP-PT100_N (Thin QFP, 100-Leads, Body 12x12mm, Pitch 0.4mm, IPC Medium Density)
footprint TQFP-PT100_L (Thin QFP, 100-Leads, Body 12x12mm, Pitch 0.4mm, IPC High Density)
footprint TQFP-PT100_M (Thin QFP, 100-Leads, Body 12x12mm, Pitch 0.4mm, IPC Low Density)
pins: 1 COFS/RG15 (io), 2 VDD (power), 3 AN29/RE5 (io), 4 AN30/RE6 (io), 5 AN31/RE7 (io), 6 AN16/T2CK/T7CK/RC1 (io), 7 AN17/T3CK/T6CK/RC2 (io), 8 AN18/T4CK/T9CK/RC3 (io), 9 AN19/T5CK/T8CK/RC4 (io), 10 SCK2/CN8/RG6 (io), 11 SDI2/CN9/RG7 (io), 12 SDO2/CN10/RG8 (io), 13 ~{MCLR} (in), 14 ~{SS2}/CN11/RG9 (io), 15 VSS (power), 16 VDD (power), 17 TMS/RA0 (io), 18 AN20/INT1/RA12 (io), 19 AN21/INT2/RA13 (io), 20 AN5/CN7/RB5 (io), 21 AN4/CN6/RB4 (io), 22 AN3/CN5/RB3 (io), 23 AN2/~{SS1}/CN4/RB2 (io), 24 PGEC3/AN1/CN3/RB1 (io), 25 PGED3/AN0/CN2/RB0 (io), 26 PGEC1/AN6/OCFA/RB6 (io), 27 PGED1/AN7/RB7 (io), 28 VREF-/RA9 (io), 29 VREF+/RA10 (io), 30 AVDD (power), 31 AVSS (power), 32 AN8/RB8 (io), 33 AN9/RB9 (io), 34 AN10/RB10 (io), 35 AN11/RB11 (io), 36 VSS (power), 37 VDD (power), 38 TCK/RA1 (io), 39 ~{U2RTS}/RF13 (io), 40 ~{U2CTS}/RF12 (io), 41 AN12/RB12 (io), 42 AN13/RB13 (io), 43 AN14/RB14 (io), 44 AN15/OCFB/CN12/RB15 (io), 45 VSS (power), 46 VDD (power), 47 IC7/~{U1CTS}/CN20/RD14 (io), 48 IC8/~{U1RTS}/CN21/RD15 (io), 49 U2RX/CN17/RF4 (io), 50 U2TX/CN18/RF5 (io), 51 U1TX/RF3 (io), 52 U1RX/RF2 (io), 53 SDO1/RF8 (io), 54 SDI1/RF7 (io), 55 SCK1/INT0/RF6 (io), 56 SDA1/RG3 (io), 57 SCL1/RG2 (io), 58 SCL2/RA2 (io), 59 SDA2/RA3 (io), 60 TDI/RA4 (io), 61 TDO/RA5 (io), 62 VDD (power), 63 OSC1/CLKIN/RC12 (io), 64 OSC2/CLKO/RC15 (io), 65 VSS (power), 66 INT3/RA14 (io), 67 INT4/RA15 (io), 68 IC1/RD8 (io), 69 IC2/RD9 (io), 70 IC3/RD10 (io), 71 IC4/RD11 (io), 72 OC1/RD0 (io), 73 PGED2/SOSCI/CN1/RC13 (io), 74 PGEC2/SOSCO/T1CK/CN0/RC14 (io), 75 VSS (power), 76 OC2/RD1 (io), 77 OC3/RD2 (io), 78 OC4/RD3 (io), 79 IC5/RD12 (io), 80 IC6/CN19/RD13 (io), 81 OC5/CN13/RD4 (io), 82 OC6/CN14/RD5 (io), 83 OC7/CN15/RD6 (io), 84 OC8/CN16/RD7 (io), 85 VCAP/VDDCORE (power), 86 VDD (power), 87 RF0 (io), 88 RF1 (io), 89 RG1 (io), 90 RG0 (io), 91 AN22/CN22/RA6 (io), 92 AN23/CN23/RA7 (io), 93 AN24/RE0 (io), 94 AN25/RE1 (io), 95 CSCK/RG14 (io), 96 CSDI/RG12 (io), 97 CSDO/RG13 (io), 98 AN26/RE2 (io), 99 AN27/RE3 (io), 100 AN28/RE4 (io)

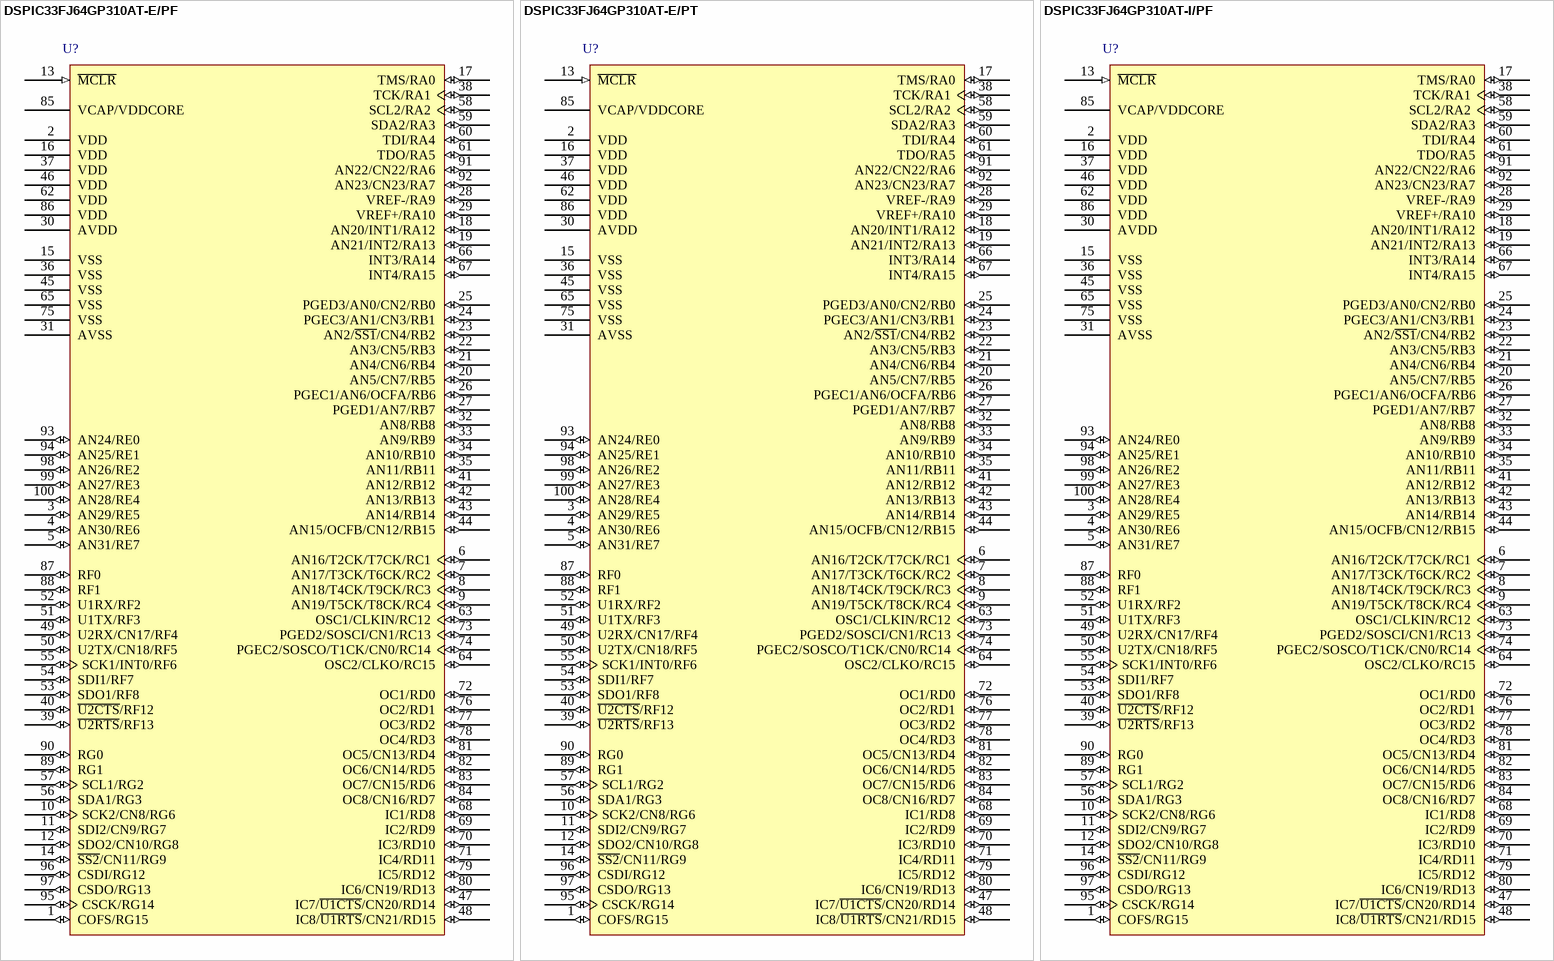
[diagram p35: symbols DSPIC33FJ64GP310AT-E/PF to DSPIC33FJ64GP310AT-I/PF]

## DSPIC33FJ64GP310AT-E/PF
designator U?
High-Performance 16-bit Digital Signal Controller, 64 KB Flash, 16 KB RAM , 100-PinTQFP, Extended High Temperature , Tape and Reel; DatasheetVersion: revB, Apr-2009; PackageVersion: revBB, Aug-2009; PackageReference: TQFP-PF100; PackageDescription: 100-Lead Thin Plastic Quad Flat Pack (PF) - 14x14x1mm Body, 2.00mm [TQFP]; ComponentLink1Description: Manufacturer URL; ComponentLink1URL: http://www.microchip.com/; ComponentLink2Description: Datasheet; ComponentLink2URL: http://ww1.microchip.com/downloads/en/DeviceDoc/70593B.pdf; ComponentLink3Description: Package Specification; ComponentLink3URL: http://www.microchip.com/stellent/groups/techpub_sg/documents/packagingspec/en012702.pdf
footprint TQFP-PF100_N (Thin QFP, 100-Leads, Body 14x14mm, Pitch 0.5mm, IPC Medium Density)
footprint TQFP-PF100_L (Thin QFP, 100-Leads, Body 14x14mm, Pitch 0.5mm, IPC High Density)
footprint TQFP-PF100_M (Thin QFP, 100-Leads, Body 14x14mm, Pitch 0.5mm, IPC Low Density)
pins: 1 COFS/RG15 (io), 2 VDD (power), 3 AN29/RE5 (io), 4 AN30/RE6 (io), 5 AN31/RE7 (io), 6 AN16/T2CK/T7CK/RC1 (io), 7 AN17/T3CK/T6CK/RC2 (io), 8 AN18/T4CK/T9CK/RC3 (io), 9 AN19/T5CK/T8CK/RC4 (io), 10 SCK2/CN8/RG6 (io), 11 SDI2/CN9/RG7 (io), 12 SDO2/CN10/RG8 (io), 13 ~{MCLR} (in), 14 ~{SS2}/CN11/RG9 (io), 15 VSS (power), 16 VDD (power), 17 TMS/RA0 (io), 18 AN20/INT1/RA12 (io), 19 AN21/INT2/RA13 (io), 20 AN5/CN7/RB5 (io), 21 AN4/CN6/RB4 (io), 22 AN3/CN5/RB3 (io), 23 AN2/~{SS1}/CN4/RB2 (io), 24 PGEC3/AN1/CN3/RB1 (io), 25 PGED3/AN0/CN2/RB0 (io), 26 PGEC1/AN6/OCFA/RB6 (io), 27 PGED1/AN7/RB7 (io), 28 VREF-/RA9 (io), 29 VREF+/RA10 (io), 30 AVDD (power), 31 AVSS (power), 32 AN8/RB8 (io), 33 AN9/RB9 (io), 34 AN10/RB10 (io), 35 AN11/RB11 (io), 36 VSS (power), 37 VDD (power), 38 TCK/RA1 (io), 39 ~{U2RTS}/RF13 (io), 40 ~{U2CTS}/RF12 (io), 41 AN12/RB12 (io), 42 AN13/RB13 (io), 43 AN14/RB14 (io), 44 AN15/OCFB/CN12/RB15 (io), 45 VSS (power), 46 VDD (power), 47 IC7/~{U1CTS}/CN20/RD14 (io), 48 IC8/~{U1RTS}/CN21/RD15 (io), 49 U2RX/CN17/RF4 (io), 50 U2TX/CN18/RF5 (io), 51 U1TX/RF3 (io), 52 U1RX/RF2 (io), 53 SDO1/RF8 (io), 54 SDI1/RF7 (io), 55 SCK1/INT0/RF6 (io), 56 SDA1/RG3 (io), 57 SCL1/RG2 (io), 58 SCL2/RA2 (io), 59 SDA2/RA3 (io), 60 TDI/RA4 (io), 61 TDO/RA5 (io), 62 VDD (power), 63 OSC1/CLKIN/RC12 (io), 64 OSC2/CLKO/RC15 (io), 65 VSS (power), 66 INT3/RA14 (io), 67 INT4/RA15 (io), 68 IC1/RD8 (io), 69 IC2/RD9 (io), 70 IC3/RD10 (io), 71 IC4/RD11 (io), 72 OC1/RD0 (io), 73 PGED2/SOSCI/CN1/RC13 (io), 74 PGEC2/SOSCO/T1CK/CN0/RC14 (io), 75 VSS (power), 76 OC2/RD1 (io), 77 OC3/RD2 (io), 78 OC4/RD3 (io), 79 IC5/RD12 (io), 80 IC6/CN19/RD13 (io), 81 OC5/CN13/RD4 (io), 82 OC6/CN14/RD5 (io), 83 OC7/CN15/RD6 (io), 84 OC8/CN16/RD7 (io), 85 VCAP/VDDCORE (power), 86 VDD (power), 87 RF0 (io), 88 RF1 (io), 89 RG1 (io), 90 RG0 (io), 91 AN22/CN22/RA6 (io), 92 AN23/CN23/RA7 (io), 93 AN24/RE0 (io), 94 AN25/RE1 (io), 95 CSCK/RG14 (io), 96 CSDI/RG12 (io), 97 CSDO/RG13 (io), 98 AN26/RE2 (io), 99 AN27/RE3 (io), 100 AN28/RE4 (io)